# Altium integrated library Actel ProASIC3.IntLib: 465 symbols (part 67 of 68)
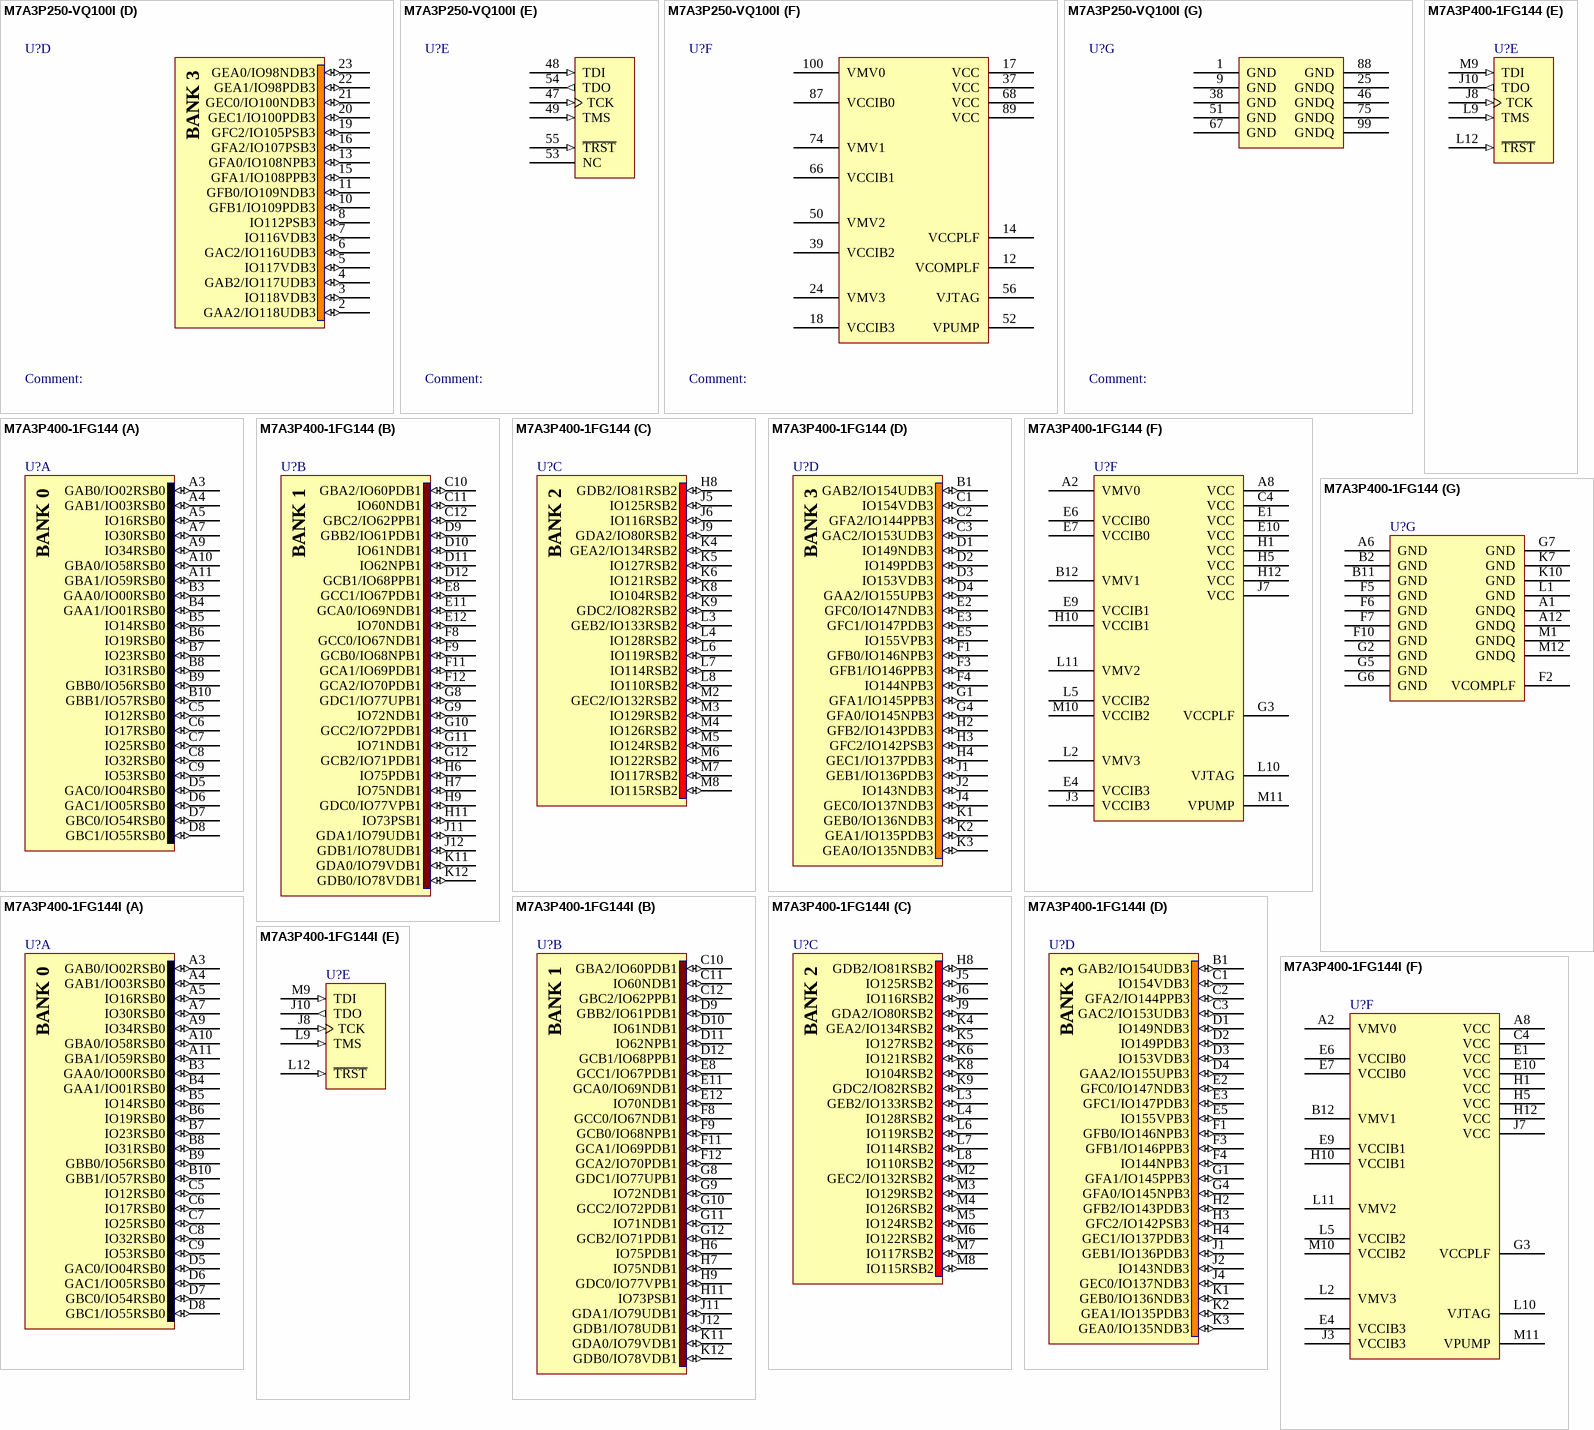
[diagram p357: symbols M7A3P250-VQ100I to M7A3P400-1FG144I]

## M7A3P250-VQ100I
designator U?
M7-Ready ProASIC3 Flash Family FPGA, 68 User IOs, 250K System Gates, 36 Kbits RAM, 1 Kbit Flash ROM, 1 PLL, 100-Pin VQFP, Industrial Grade; DatasheetVersion: v1.1, Feb-2009; PackageVersion: rev40, Jun-2011; PackageReference: VQ100; PackageDescription: 100-Pin Plastic Quad Flat Pack (VQ100); Code_JEDEC: MS-026-AED; ComponentLink1Description: Manufacturer URL; ComponentLink1URL: http://www.actel.com/; ComponentLink2Description: ProASIC3 Datasheet; ComponentLink2URL: http://www.actel.com/documents/PA3_DS.pdf; ComponentLink3Description: Package Mechanical Drawings; ComponentLink3URL: http://www.actel.com/documents/PckgMechDrwngs.pdf; ComponentLink4Description: ProASIC3 Documents; ComponentLink4URL: http://www.actel.com/products/pa3/docs.aspx
footprint VQ100_N (Thin QFP, 100-Leads, Body 14x14mm, Pitch 0.5mm, IPC Medium Density)
footprint VQ100_L (Thin QFP, 100-Leads, Body 14x14mm, Pitch 0.5mm, IPC High Density)
footprint VQ100_M (Thin QFP, 100-Leads, Body 14x14mm, Pitch 0.5mm, IPC Low Density)
part A pins: 76 GBA1/IO40RSB0 (io), 77 GBA0/IO39RSB0 (io), 78 GBB1/IO38RSB0 (io), 79 GBB0/IO37RSB0 (io), 80 GBC1/IO36RSB0 (io), 81 GBC0/IO35RSB0 (io), 82 IO29RSB0 (io), 83 IO27RSB0 (io), 84 IO25RSB0 (io), 85 IO23RSB0 (io), 86 IO21RSB0 (io), 90 IO15RSB0 (io), 91 IO13RSB0 (io), 92 IO11RSB0 (io), 93 GAC1/IO05RSB0 (io), 94 GAC0/IO04RSB0 (io), 95 GAB1/IO03RSB0 (io), 96 GAB0/IO02RSB0 (io), 97 GAA1/IO01RSB0 (io), 98 GAA0/IO00RSB0 (io)
part B pins: 57 GDA1/IO60USB1 (io), 58 GDC0/IO58VDB1 (io), 59 GDC1/IO58UDB1 (io), 60 IO52NDB1 (io), 61 GCB2/IO52PDB1 (io), 62 GCA1/IO50PDB1 (io), 63 GCA0/IO50NDB1 (io), 64 GCC0/IO48NDB1 (io), 65 GCC1/IO48PDB1 (io), 69 IO43NDB1 (io), 70 GBC2/IO43PDB1 (io), 71 GBB2/IO42PSB1 (io), 72 IO41NDB1 (io), 73 GBA2/IO41PDB1 (io)
part C pins: 26 GEA2/IO97RSB2 (io), 27 GEB2/IO96RSB2 (io), 28 GEC2/IO95RSB2 (io), 29 IO93RSB2 (io), 30 IO92RSB2 (io), 31 IO91RSB2 (io), 32 IO90RSB2 (io), 33 IO88RSB2 (io), 34 IO86RSB2 (io), 35 IO85RSB2 (io), 36 IO84RSB2 (io), 40 IO77RSB2 (io), 41 IO74RSB2 (io), 42 IO71RSB2 (io), 43 GDC2/IO63RSB2 (io), 44 GDB2/IO62RSB2 (io), 45 GDA2/IO61RSB2 (io)
part D pins: 2 GAA2/IO118UDB3 (io), 3 IO118VDB3 (io), 4 GAB2/IO117UDB3 (io), 5 IO117VDB3 (io), 6 GAC2/IO116UDB3 (io), 7 IO116VDB3 (io), 8 IO112PSB3 (io), 10 GFB1/IO109PDB3 (io), 11 GFB0/IO109NDB3 (io), 13 GFA0/IO108NPB3 (io), 15 GFA1/IO108PPB3 (io), 16 GFA2/IO107PSB3 (io), 19 GFC2/IO105PSB3 (io), 20 GEC1/IO100PDB3 (io), 21 GEC0/IO100NDB3 (io), 22 GEA1/IO98PDB3 (io), 23 GEA0/IO98NDB3 (io)
part E pins: 47 TCK (in), 48 TDI (in), 49 TMS (in), 53 NC, 54 TDO (out), 55 ~{TRST} (in)
part F pins: 12 VCOMPLF (power), 14 VCCPLF (power), 17 VCC (power), 18 VCCIB3 (power), 24 VMV3 (power), 37 VCC (power), 39 VCCIB2 (power), 50 VMV2 (power), 52 VPUMP (power), 56 VJTAG (power), 66 VCCIB1 (power), 68 VCC (power), 74 VMV1 (power), 87 VCCIB0 (power), 89 VCC (power), 100 VMV0 (power)
part G pins: 1 GND (power), 9 GND (power), 25 GNDQ (power), 38 GND (power), 46 GNDQ (power), 51 GND (power), 67 GND (power), 75 GNDQ (power), 88 GND (power), 99 GNDQ (power)
part A text: BANK 0
part B text: BANK 1
part C text: BANK 2
part D text: BANK 3

## M7A3P400-1FG144
designator U?
M7-Ready ProASIC3 Flash Family FPGA, 97 User IOs, 400K System Gates, 54 Kbits RAM, 1 Kbit Flash ROM, 1 PLL, 144-Ball FBGA, Commercial Grade; DatasheetVersion: v1.1, Feb-2009; PackageVersion: rev39, Aug-2010; PackageReference: FG144; PackageDescription: 144-Ball Fine Pitch Plastic Ball Grid Array (FG144); Code_JEDEC: MO-192-DAD-1; ComponentLink1Description: Manufacturer URL; ComponentLink1URL: http://www.actel.com/; ComponentLink2Description: ProASIC3 Datasheet; ComponentLink2URL: http://www.actel.com/documents/PA3_DS.pdf; ComponentLink3Description: Package Mechanical Drawings; ComponentLink3URL: http://www.actel.com/documents/PckgMechDrwngs.pdf; ComponentLink4Description: ProASIC3 Documents; ComponentLink4URL: http://www.actel.com/products/pa3/docs.aspx
footprint FG144 (BGA, 144-Leads, Body 13x13mm, Pitch 1mm)
part A pins: A3 GAB0/IO02RSB0 (io), A4 GAB1/IO03RSB0 (io), A5 IO16RSB0 (io), A7 IO30RSB0 (io), A9 IO34RSB0 (io), A10 GBA0/IO58RSB0 (io), A11 GBA1/IO59RSB0 (io), B3 GAA0/IO00RSB0 (io), B4 GAA1/IO01RSB0 (io), B5 IO14RSB0 (io), B6 IO19RSB0 (io), B7 IO23RSB0 (io), B8 IO31RSB0 (io), B9 GBB0/IO56RSB0 (io), B10 GBB1/IO57RSB0 (io), C5 IO12RSB0 (io), C6 IO17RSB0 (io), C7 IO25RSB0 (io), C8 IO32RSB0 (io), C9 IO53RSB0 (io), D5 GAC0/IO04RSB0 (io), D6 GAC1/IO05RSB0 (io), D7 GBC0/IO54RSB0 (io), D8 GBC1/IO55RSB0 (io)
part B pins: C10 GBA2/IO60PDB1 (io), C11 IO60NDB1 (io), C12 GBC2/IO62PPB1 (io), D9 GBB2/IO61PDB1 (io), D10 IO61NDB1 (io), D11 IO62NPB1 (io), D12 GCB1/IO68PPB1 (io), E8 GCC1/IO67PDB1 (io), E11 GCA0/IO69NDB1 (io), E12 IO70NDB1 (io), F8 GCC0/IO67NDB1 (io), F9 GCB0/IO68NPB1 (io), F11 GCA1/IO69PDB1 (io), F12 GCA2/IO70PDB1 (io), G8 GDC1/IO77UPB1 (io), G9 IO72NDB1 (io), G10 GCC2/IO72PDB1 (io), G11 IO71NDB1 (io), G12 GCB2/IO71PDB1 (io), H6 IO75PDB1 (io), H7 IO75NDB1 (io), H9 GDC0/IO77VPB1 (io), H11 IO73PSB1 (io), J11 GDA1/IO79UDB1 (io), J12 GDB1/IO78UDB1 (io), K11 GDA0/IO79VDB1 (io), K12 GDB0/IO78VDB1 (io)
part C pins: H8 GDB2/IO81RSB2 (io), J5 IO125RSB2 (io), J6 IO116RSB2 (io), J9 GDA2/IO80RSB2 (io), K4 GEA2/IO134RSB2 (io), K5 IO127RSB2 (io), K6 IO121RSB2 (io), K8 IO104RSB2 (io), K9 GDC2/IO82RSB2 (io), L3 GEB2/IO133RSB2 (io), L4 IO128RSB2 (io), L6 IO119RSB2 (io), L7 IO114RSB2 (io), L8 IO110RSB2 (io), M2 GEC2/IO132RSB2 (io), M3 IO129RSB2 (io), M4 IO126RSB2 (io), M5 IO124RSB2 (io), M6 IO122RSB2 (io), M7 IO117RSB2 (io), M8 IO115RSB2 (io)
part D pins: B1 GAB2/IO154UDB3 (io), C1 IO154VDB3 (io), C2 GFA2/IO144PPB3 (io), C3 GAC2/IO153UDB3 (io), D1 IO149NDB3 (io), D2 IO149PDB3 (io), D3 IO153VDB3 (io), D4 GAA2/IO155UPB3 (io), E2 GFC0/IO147NDB3 (io), E3 GFC1/IO147PDB3 (io), E5 IO155VPB3 (io), F1 GFB0/IO146NPB3 (io), F3 GFB1/IO146PPB3 (io), F4 IO144NPB3 (io), G1 GFA1/IO145PPB3 (io), G4 GFA0/IO145NPB3 (io), H2 GFB2/IO143PDB3 (io), H3 GFC2/IO142PSB3 (io), H4 GEC1/IO137PDB3 (io), J1 GEB1/IO136PDB3 (io), J2 IO143NDB3 (io), J4 GEC0/IO137NDB3 (io), K1 GEB0/IO136NDB3 (io), K2 GEA1/IO135PDB3 (io), K3 GEA0/IO135NDB3 (io)
part E pins: J8 TCK (in), J10 TDO (out), L9 TMS (in), L12 ~{TRST} (in), M9 TDI (in)
part F pins: A2 VMV0 (power), A8 VCC (power), B12 VMV1 (power), C4 VCC (power), E1 VCC (power), E4 VCCIB3 (power), E6 VCCIB0 (power), E7 VCCIB0 (power), E9 VCCIB1 (power), E10 VCC (power), G3 VCCPLF (power), H1 VCC (power), H5 VCC (power), H10 VCCIB1 (power), H12 VCC (power), J3 VCCIB3 (power), J7 VCC (power), L2 VMV3 (power), L5 VCCIB2 (power), L10 VJTAG (power), L11 VMV2 (power), M10 VCCIB2 (power), M11 VPUMP (power)
part G pins: A1 GNDQ (power), A6 GND (power), A12 GNDQ (power), B2 GND (power), B11 GND (power), F2 VCOMPLF (power), F5 GND (power), F6 GND (power), F7 GND (power), F10 GND (power), G2 GND (power), G5 GND (power), G6 GND (power), G7 GND (power), K7 GND (power), K10 GND (power), L1 GND (power), M1 GNDQ (power), M12 GNDQ (power)
part A text: BANK 0
part B text: BANK 1
part C text: BANK 2
part D text: BANK 3

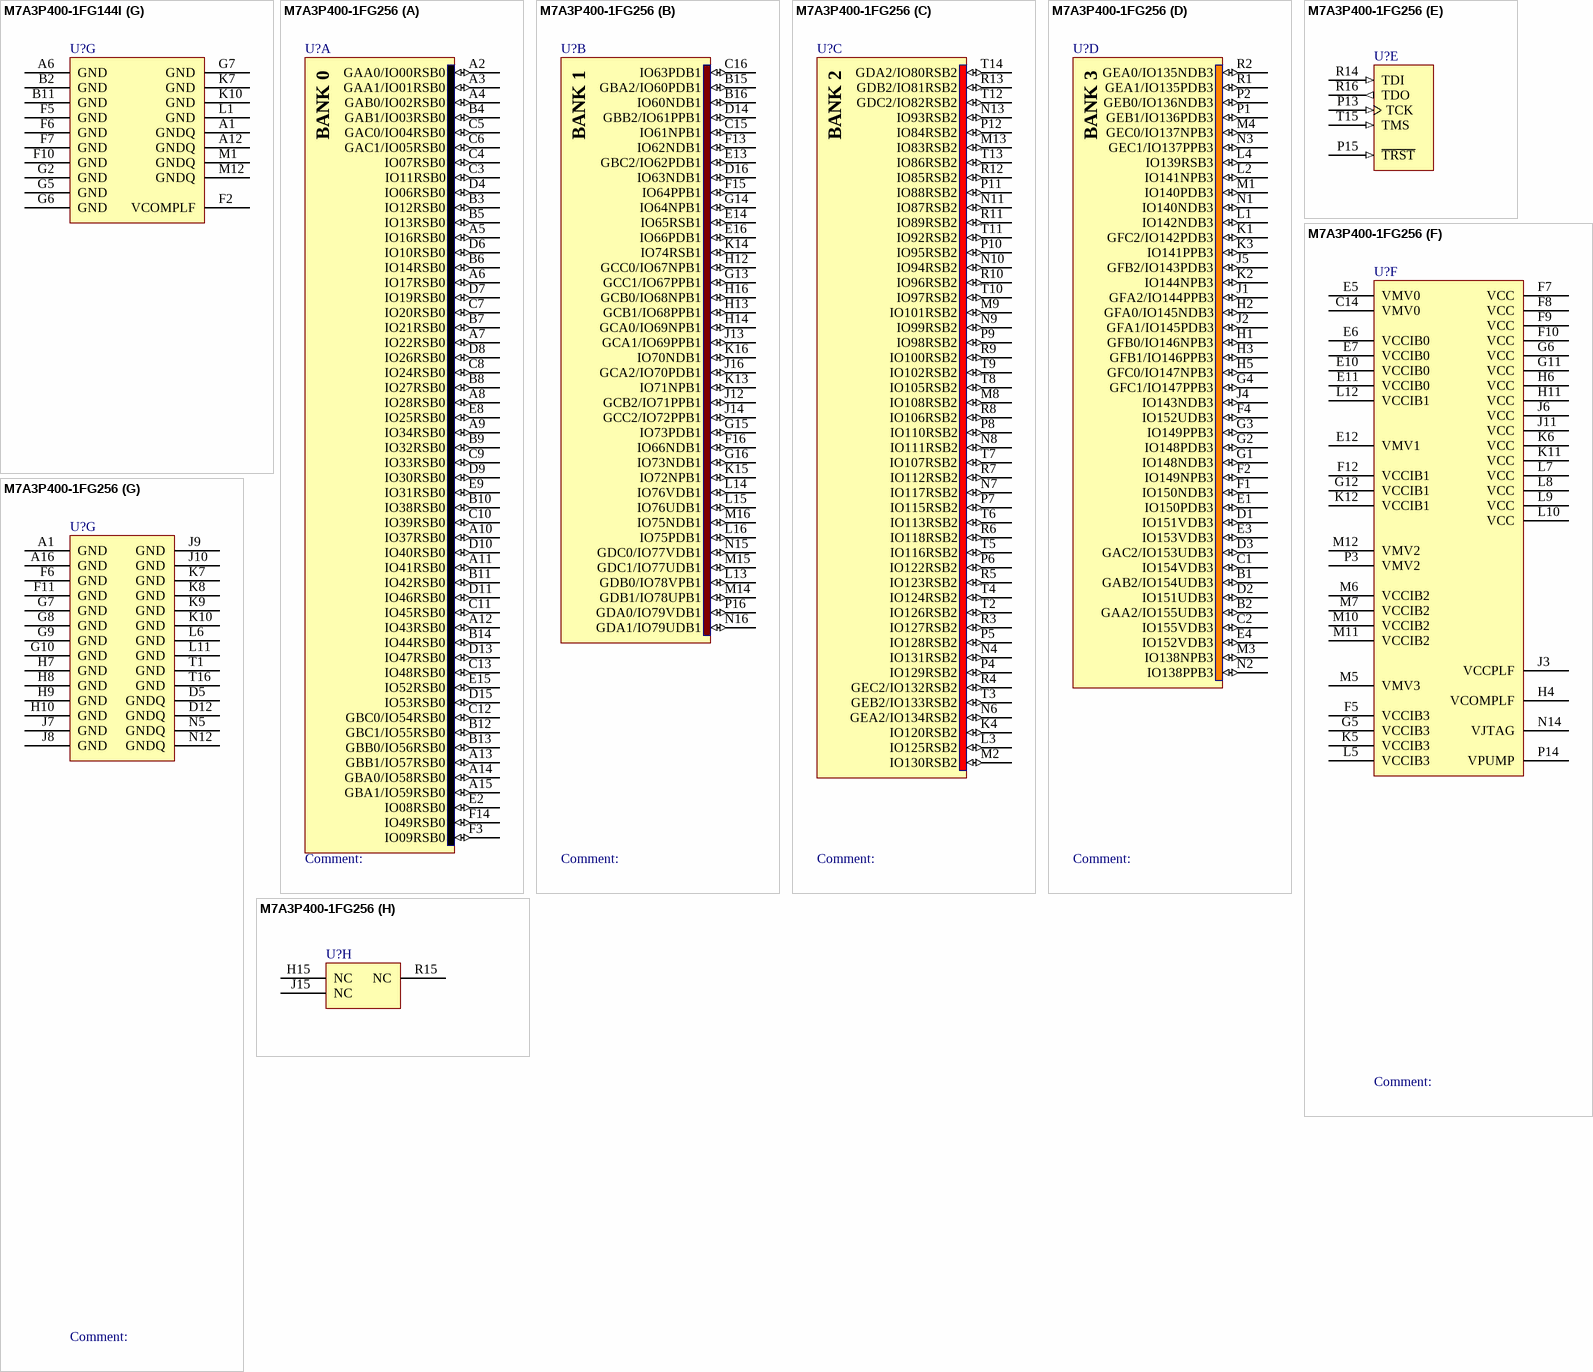
[diagram p255: symbols M7A3P400-1FG144I to M7A3P400-1FG256]

## M7A3P400-1FG144I
designator U?
M7-Ready ProASIC3 Flash Family FPGA, 97 User IOs, 400K System Gates, 54 Kbits RAM, 1 Kbit Flash ROM, 1 PLL, 144-Ball FBGA, Industrial Grade; DatasheetVersion: v1.1, Feb-2009; PackageVersion: rev39, Aug-2010; PackageReference: FG144; PackageDescription: 144-Ball Fine Pitch Plastic Ball Grid Array (FG144); Code_JEDEC: MO-192-DAD-1; ComponentLink1Description: Manufacturer URL; ComponentLink1URL: http://www.actel.com/; ComponentLink2Description: ProASIC3 Datasheet; ComponentLink2URL: http://www.actel.com/documents/PA3_DS.pdf; ComponentLink3Description: Package Mechanical Drawings; ComponentLink3URL: http://www.actel.com/documents/PckgMechDrwngs.pdf; ComponentLink4Description: ProASIC3 Documents; ComponentLink4URL: http://www.actel.com/products/pa3/docs.aspx
footprint FG144 (BGA, 144-Leads, Body 13x13mm, Pitch 1mm)
part A pins: A3 GAB0/IO02RSB0 (io), A4 GAB1/IO03RSB0 (io), A5 IO16RSB0 (io), A7 IO30RSB0 (io), A9 IO34RSB0 (io), A10 GBA0/IO58RSB0 (io), A11 GBA1/IO59RSB0 (io), B3 GAA0/IO00RSB0 (io), B4 GAA1/IO01RSB0 (io), B5 IO14RSB0 (io), B6 IO19RSB0 (io), B7 IO23RSB0 (io), B8 IO31RSB0 (io), B9 GBB0/IO56RSB0 (io), B10 GBB1/IO57RSB0 (io), C5 IO12RSB0 (io), C6 IO17RSB0 (io), C7 IO25RSB0 (io), C8 IO32RSB0 (io), C9 IO53RSB0 (io), D5 GAC0/IO04RSB0 (io), D6 GAC1/IO05RSB0 (io), D7 GBC0/IO54RSB0 (io), D8 GBC1/IO55RSB0 (io)
part B pins: C10 GBA2/IO60PDB1 (io), C11 IO60NDB1 (io), C12 GBC2/IO62PPB1 (io), D9 GBB2/IO61PDB1 (io), D10 IO61NDB1 (io), D11 IO62NPB1 (io), D12 GCB1/IO68PPB1 (io), E8 GCC1/IO67PDB1 (io), E11 GCA0/IO69NDB1 (io), E12 IO70NDB1 (io), F8 GCC0/IO67NDB1 (io), F9 GCB0/IO68NPB1 (io), F11 GCA1/IO69PDB1 (io), F12 GCA2/IO70PDB1 (io), G8 GDC1/IO77UPB1 (io), G9 IO72NDB1 (io), G10 GCC2/IO72PDB1 (io), G11 IO71NDB1 (io), G12 GCB2/IO71PDB1 (io), H6 IO75PDB1 (io), H7 IO75NDB1 (io), H9 GDC0/IO77VPB1 (io), H11 IO73PSB1 (io), J11 GDA1/IO79UDB1 (io), J12 GDB1/IO78UDB1 (io), K11 GDA0/IO79VDB1 (io), K12 GDB0/IO78VDB1 (io)
part C pins: H8 GDB2/IO81RSB2 (io), J5 IO125RSB2 (io), J6 IO116RSB2 (io), J9 GDA2/IO80RSB2 (io), K4 GEA2/IO134RSB2 (io), K5 IO127RSB2 (io), K6 IO121RSB2 (io), K8 IO104RSB2 (io), K9 GDC2/IO82RSB2 (io), L3 GEB2/IO133RSB2 (io), L4 IO128RSB2 (io), L6 IO119RSB2 (io), L7 IO114RSB2 (io), L8 IO110RSB2 (io), M2 GEC2/IO132RSB2 (io), M3 IO129RSB2 (io), M4 IO126RSB2 (io), M5 IO124RSB2 (io), M6 IO122RSB2 (io), M7 IO117RSB2 (io), M8 IO115RSB2 (io)
part D pins: B1 GAB2/IO154UDB3 (io), C1 IO154VDB3 (io), C2 GFA2/IO144PPB3 (io), C3 GAC2/IO153UDB3 (io), D1 IO149NDB3 (io), D2 IO149PDB3 (io), D3 IO153VDB3 (io), D4 GAA2/IO155UPB3 (io), E2 GFC0/IO147NDB3 (io), E3 GFC1/IO147PDB3 (io), E5 IO155VPB3 (io), F1 GFB0/IO146NPB3 (io), F3 GFB1/IO146PPB3 (io), F4 IO144NPB3 (io), G1 GFA1/IO145PPB3 (io), G4 GFA0/IO145NPB3 (io), H2 GFB2/IO143PDB3 (io), H3 GFC2/IO142PSB3 (io), H4 GEC1/IO137PDB3 (io), J1 GEB1/IO136PDB3 (io), J2 IO143NDB3 (io), J4 GEC0/IO137NDB3 (io), K1 GEB0/IO136NDB3 (io), K2 GEA1/IO135PDB3 (io), K3 GEA0/IO135NDB3 (io)
part E pins: J8 TCK (in), J10 TDO (out), L9 TMS (in), L12 ~{TRST} (in), M9 TDI (in)
part F pins: A2 VMV0 (power), A8 VCC (power), B12 VMV1 (power), C4 VCC (power), E1 VCC (power), E4 VCCIB3 (power), E6 VCCIB0 (power), E7 VCCIB0 (power), E9 VCCIB1 (power), E10 VCC (power), G3 VCCPLF (power), H1 VCC (power), H5 VCC (power), H10 VCCIB1 (power), H12 VCC (power), J3 VCCIB3 (power), J7 VCC (power), L2 VMV3 (power), L5 VCCIB2 (power), L10 VJTAG (power), L11 VMV2 (power), M10 VCCIB2 (power), M11 VPUMP (power)
part G pins: A1 GNDQ (power), A6 GND (power), A12 GNDQ (power), B2 GND (power), B11 GND (power), F2 VCOMPLF (power), F5 GND (power), F6 GND (power), F7 GND (power), F10 GND (power), G2 GND (power), G5 GND (power), G6 GND (power), G7 GND (power), K7 GND (power), K10 GND (power), L1 GND (power), M1 GNDQ (power), M12 GNDQ (power)
part A text: BANK 0
part B text: BANK 1
part C text: BANK 2
part D text: BANK 3

## M7A3P400-1FG256
designator U?
M7-Ready ProASIC3 Flash Family FPGA, 178 User IOs, 400K System Gates, 54 Kbits RAM, 1 Kbit Flash ROM, 1 PLL, 256-Ball FBGA, Commercial Grade; DatasheetVersion: v1.1, Feb-2009; PackageVersion: rev39, Aug-2010; PackageReference: FG256; PackageDescription: 256-Ball Fine Pitch Plastic Ball Grid Array 1.00 mm Pitch (FG256); Code_JEDEC: MO-192-DAF-1; ComponentLink1Description: Manufacturer URL; ComponentLink1URL: http://www.actel.com/; ComponentLink2Description: ProASIC3 Datasheet; ComponentLink2URL: http://www.actel.com/documents/PA3_DS.pdf; ComponentLink3Description: Package Mechanical Drawings; ComponentLink3URL: http://www.actel.com/documents/PckgMechDrwngs.pdf; ComponentLink4Description: ProASIC3 Documents; ComponentLink4URL: http://www.actel.com/products/pa3/docs.aspx
footprint FG256 (BGA, 256-Leads, Body 17x17mm, Pitch 1mm)
part A pins: A2 GAA0/IO00RSB0 (io), A3 GAA1/IO01RSB0 (io), A4 GAB0/IO02RSB0 (io), A5 IO16RSB0 (io), A6 IO17RSB0 (io), A7 IO22RSB0 (io), A8 IO28RSB0 (io), A9 IO34RSB0 (io), A10 IO37RSB0 (io), A11 IO41RSB0 (io), A12 IO43RSB0 (io), A13 GBB1/IO57RSB0 (io), A14 GBA0/IO58RSB0 (io), A15 GBA1/IO59RSB0 (io), B3 IO12RSB0 (io), B4 GAB1/IO03RSB0 (io), B5 IO13RSB0 (io), B6 IO14RSB0 (io), B7 IO21RSB0 (io), B8 IO27RSB0 (io), B9 IO32RSB0 (io), B10 IO38RSB0 (io), B11 IO42RSB0 (io), B12 GBC1/IO55RSB0 (io), B13 GBB0/IO56RSB0 (io), B14 IO44RSB0 (io), C3 IO11RSB0 (io), C4 IO07RSB0 (io), C5 GAC0/IO04RSB0 (io), C6 GAC1/IO05RSB0 (io), C7 IO20RSB0 (io), C8 IO24RSB0 (io), C9 IO33RSB0 (io), C10 IO39RSB0 (io), C11 IO45RSB0 (io), C12 GBC0/IO54RSB0 (io), C13 IO48RSB0 (io), D4 IO06RSB0 (io), D6 IO10RSB0 (io), D7 IO19RSB0 (io), D8 IO26RSB0 (io), D9 IO30RSB0 (io), D10 IO40RSB0 (io), D11 IO46RSB0 (io), D13 IO47RSB0 (io), D15 IO53RSB0 (io), E2 IO08RSB0 (io), E8 IO25RSB0 (io), E9 IO31RSB0 (io), E15 IO52RSB0 (io), F3 IO09RSB0 (io), F14 IO49RSB0 (io)
part B pins: B15 GBA2/IO60PDB1 (io), B16 IO60NDB1 (io), C15 IO61NPB1 (io), C16 IO63PDB1 (io), D14 GBB2/IO61PPB1 (io), D16 IO63NDB1 (io), E13 GBC2/IO62PDB1 (io), E14 IO65RSB1 (io), E16 IO66PDB1 (io), F13 IO62NDB1 (io), F15 IO64PPB1 (io), F16 IO66NDB1 (io), G13 GCC1/IO67PPB1 (io), G14 IO64NPB1 (io), G15 IO73PDB1 (io), G16 IO73NDB1 (io), H12 GCC0/IO67NPB1 (io), H13 GCB1/IO68PPB1 (io), H14 GCA0/IO69NPB1 (io), H16 GCB0/IO68NPB1 (io), J12 GCB2/IO71PPB1 (io), J13 GCA1/IO69PPB1 (io), J14 GCC2/IO72PPB1 (io), J16 GCA2/IO70PDB1 (io), K13 IO71NPB1 (io), K14 IO74RSB1 (io), K15 IO72NPB1 (io), K16 IO70NDB1 (io), L13 GDB0/IO78VPB1 (io), L14 IO76VDB1 (io), L15 IO76UDB1 (io), L16 IO75PDB1 (io), M14 GDB1/IO78UPB1 (io), M15 GDC1/IO77UDB1 (io), M16 IO75NDB1 (io), N15 GDC0/IO77VDB1 (io), N16 GDA1/IO79UDB1 (io), P16 GDA0/IO79VDB1 (io)
part C pins: K4 IO120RSB2 (io), L3 IO125RSB2 (io), M2 IO130RSB2 (io), M8 IO108RSB2 (io), M9 IO101RSB2 (io), M13 IO83RSB2 (io), N4 IO131RSB2 (io), N6 GEA2/IO134RSB2 (io), N7 IO117RSB2 (io), N8 IO111RSB2 (io), N9 IO99RSB2 (io), N10 IO94RSB2 (io), N11 IO87RSB2 (io), N13 IO93RSB2 (io), P4 IO129RSB2 (io), P5 IO128RSB2 (io), P6 IO122RSB2 (io), P7 IO115RSB2 (io), P8 IO110RSB2 (io), P9 IO98RSB2 (io), P10 IO95RSB2 (io), P11 IO88RSB2 (io), P12 IO84RSB2 (io), R3 IO127RSB2 (io), R4 GEC2/IO132RSB2 (io), R5 IO123RSB2 (io), R6 IO118RSB2 (io), R7 IO112RSB2 (io), R8 IO106RSB2 (io), R9 IO100RSB2 (io), R10 IO96RSB2 (io), R11 IO89RSB2 (io), R12 IO85RSB2 (io), R13 GDB2/IO81RSB2 (io), T2 IO126RSB2 (io), T3 GEB2/IO133RSB2 (io), T4 IO124RSB2 (io), T5 IO116RSB2 (io), T6 IO113RSB2 (io), T7 IO107RSB2 (io), T8 IO105RSB2 (io), T9 IO102RSB2 (io), T10 IO97RSB2 (io), T11 IO92RSB2 (io), T12 GDC2/IO82RSB2 (io), T13 IO86RSB2 (io), T14 GDA2/IO80RSB2 (io)
part D pins: B1 GAB2/IO154UDB3 (io), B2 GAA2/IO155UDB3 (io), C1 IO154VDB3 (io), C2 IO155VDB3 (io), D1 IO151VDB3 (io), D2 IO151UDB3 (io), D3 GAC2/IO153UDB3 (io), E1 IO150PDB3 (io), E3 IO153VDB3 (io), E4 IO152VDB3 (io), F1 IO150NDB3 (io), F2 IO149NPB3 (io), F4 IO152UDB3 (io), G1 IO148NDB3 (io), G2 IO148PDB3 (io), G3 IO149PPB3 (io), G4 GFC1/IO147PPB3 (io), H1 GFB0/IO146NPB3 (io), H2 GFA0/IO145NDB3 (io), H3 GFB1/IO146PPB3 (io), H5 GFC0/IO147NPB3 (io), J1 GFA2/IO144PPB3 (io), J2 GFA1/IO145PDB3 (io), J4 IO143NDB3 (io), J5 GFB2/IO143PDB3 (io), K1 GFC2/IO142PDB3 (io), K2 IO144NPB3 (io), K3 IO141PPB3 (io), L1 IO142NDB3 (io), L2 IO141NPB3 (io), L4 IO139RSB3 (io), M1 IO140PDB3 (io), M3 IO138NPB3 (io), M4 GEC0/IO137NPB3 (io), N1 IO140NDB3 (io), N2 IO138PPB3 (io), N3 GEC1/IO137PPB3 (io), P1 GEB1/IO136PDB3 (io), P2 GEB0/IO136NDB3 (io), R1 GEA1/IO135PDB3 (io), R2 GEA0/IO135NDB3 (io)
part E pins: P13 TCK (in), P15 ~{TRST} (in), R14 TDI (in), R16 TDO (out), T15 TMS (in)
part F pins: C14 VMV0 (power), E5 VMV0 (power), E6 VCCIB0 (power), E7 VCCIB0 (power), E10 VCCIB0 (power), E11 VCCIB0 (power), E12 VMV1 (power), F5 VCCIB3 (power), F7 VCC (power), F8 VCC (power), F9 VCC (power), F10 VCC (power), F12 VCCIB1 (power), G5 VCCIB3 (power), G6 VCC (power), G11 VCC (power), G12 VCCIB1 (power), H4 VCOMPLF (power), H6 VCC (power), H11 VCC (power), J3 VCCPLF (power), J6 VCC (power), J11 VCC (power), K5 VCCIB3 (power), K6 VCC (power), K11 VCC (power), K12 VCCIB1 (power), L5 VCCIB3 (power), L7 VCC (power), L8 VCC (power), L9 VCC (power), L10 VCC (power), L12 VCCIB1 (power), M5 VMV3 (power), M6 VCCIB2 (power), M7 VCCIB2 (power), M10 VCCIB2 (power), M11 VCCIB2 (power), M12 VMV2 (power), N14 VJTAG (power), P3 VMV2 (power), P14 VPUMP (power)
part G pins: A1 GND (power), A16 GND (power), D5 GNDQ (power), D12 GNDQ (power), F6 GND (power), F11 GND (power), G7 GND (power), G8 GND (power), G9 GND (power), G10 GND (power), H7 GND (power), H8 GND (power), H9 GND (power), H10 GND (power), J7 GND (power), J8 GND (power), J9 GND (power), J10 GND (power), K7 GND (power), K8 GND (power), K9 GND (power), K10 GND (power), L6 GND (power), L11 GND (power), N5 GNDQ (power), N12 GNDQ (power), T1 GND (power), T16 GND (power)
part H pins: H15 NC, J15 NC, R15 NC
part A text: BANK 0
part B text: BANK 1
part C text: BANK 2
part D text: BANK 3

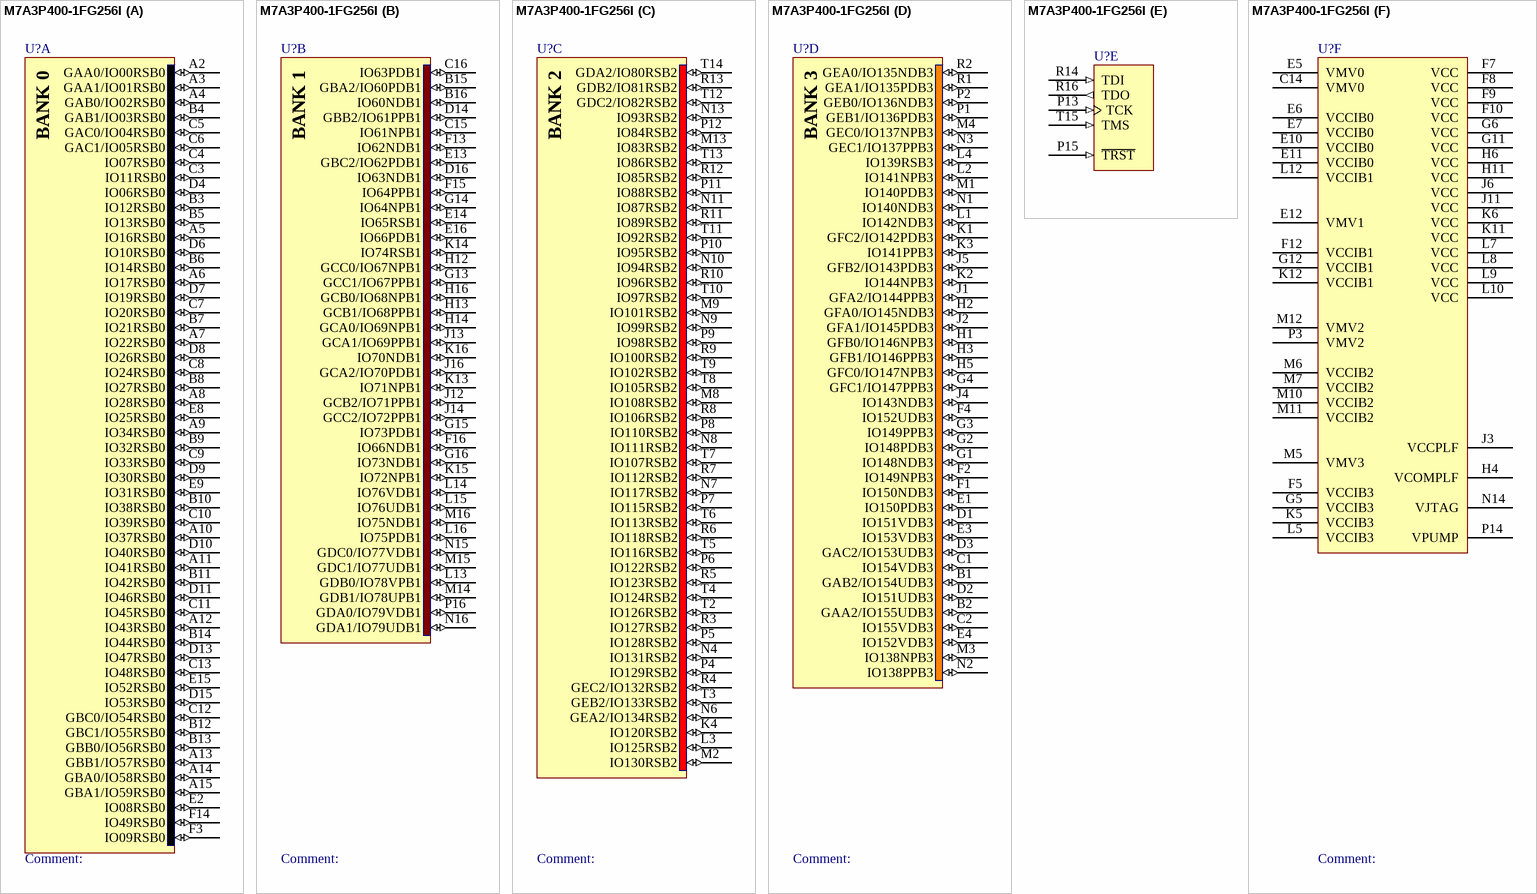
[diagram p256: symbol M7A3P400-1FG256I]

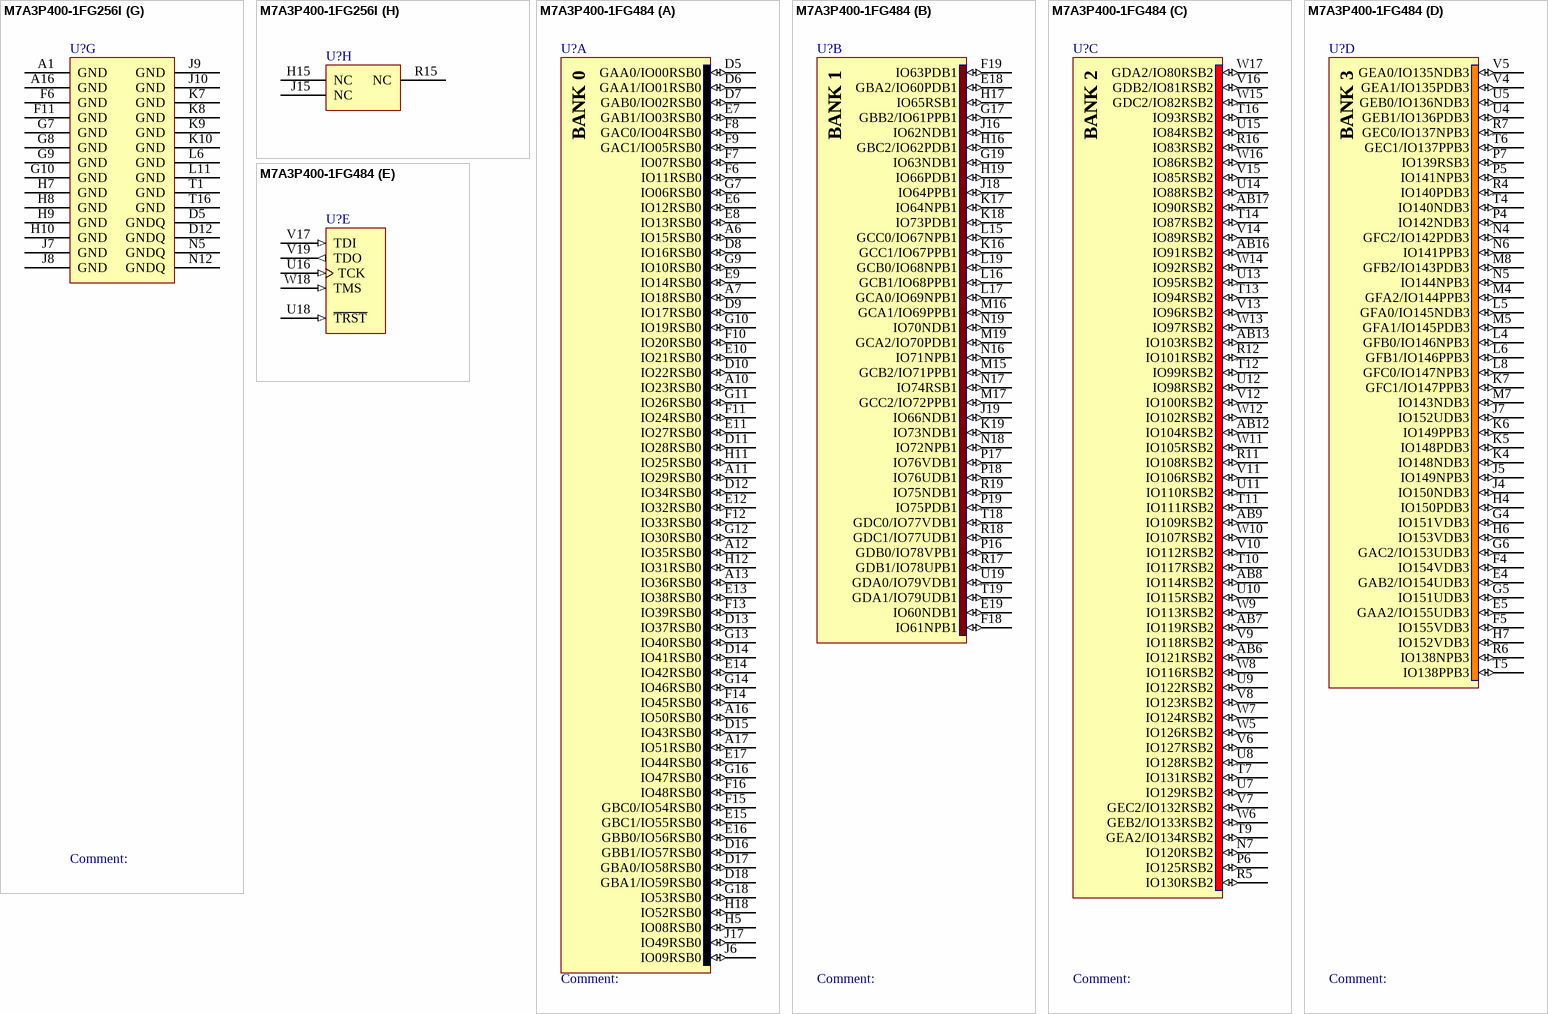
[diagram p257: symbols M7A3P400-1FG256I to M7A3P400-1FG484]

## M7A3P400-1FG256I
designator U?
M7-Ready ProASIC3 Flash Family FPGA, 178 User IOs, 400K System Gates, 54 Kbits RAM, 1 Kbit Flash ROM, 1 PLL, 256-Ball FBGA, Industrial Grade; DatasheetVersion: v1.1, Feb-2009; PackageVersion: rev39, Aug-2010; PackageReference: FG256; PackageDescription: 256-Ball Fine Pitch Plastic Ball Grid Array 1.00 mm Pitch (FG256); Code_JEDEC: MO-192-DAF-1; ComponentLink1Description: Manufacturer URL; ComponentLink1URL: http://www.actel.com/; ComponentLink2Description: ProASIC3 Datasheet; ComponentLink2URL: http://www.actel.com/documents/PA3_DS.pdf; ComponentLink3Description: Package Mechanical Drawings; ComponentLink3URL: http://www.actel.com/documents/PckgMechDrwngs.pdf; ComponentLink4Description: ProASIC3 Documents; ComponentLink4URL: http://www.actel.com/products/pa3/docs.aspx
footprint FG256 (BGA, 256-Leads, Body 17x17mm, Pitch 1mm)
part A pins: A2 GAA0/IO00RSB0 (io), A3 GAA1/IO01RSB0 (io), A4 GAB0/IO02RSB0 (io), A5 IO16RSB0 (io), A6 IO17RSB0 (io), A7 IO22RSB0 (io), A8 IO28RSB0 (io), A9 IO34RSB0 (io), A10 IO37RSB0 (io), A11 IO41RSB0 (io), A12 IO43RSB0 (io), A13 GBB1/IO57RSB0 (io), A14 GBA0/IO58RSB0 (io), A15 GBA1/IO59RSB0 (io), B3 IO12RSB0 (io), B4 GAB1/IO03RSB0 (io), B5 IO13RSB0 (io), B6 IO14RSB0 (io), B7 IO21RSB0 (io), B8 IO27RSB0 (io), B9 IO32RSB0 (io), B10 IO38RSB0 (io), B11 IO42RSB0 (io), B12 GBC1/IO55RSB0 (io), B13 GBB0/IO56RSB0 (io), B14 IO44RSB0 (io), C3 IO11RSB0 (io), C4 IO07RSB0 (io), C5 GAC0/IO04RSB0 (io), C6 GAC1/IO05RSB0 (io), C7 IO20RSB0 (io), C8 IO24RSB0 (io), C9 IO33RSB0 (io), C10 IO39RSB0 (io), C11 IO45RSB0 (io), C12 GBC0/IO54RSB0 (io), C13 IO48RSB0 (io), D4 IO06RSB0 (io), D6 IO10RSB0 (io), D7 IO19RSB0 (io), D8 IO26RSB0 (io), D9 IO30RSB0 (io), D10 IO40RSB0 (io), D11 IO46RSB0 (io), D13 IO47RSB0 (io), D15 IO53RSB0 (io), E2 IO08RSB0 (io), E8 IO25RSB0 (io), E9 IO31RSB0 (io), E15 IO52RSB0 (io), F3 IO09RSB0 (io), F14 IO49RSB0 (io)
part B pins: B15 GBA2/IO60PDB1 (io), B16 IO60NDB1 (io), C15 IO61NPB1 (io), C16 IO63PDB1 (io), D14 GBB2/IO61PPB1 (io), D16 IO63NDB1 (io), E13 GBC2/IO62PDB1 (io), E14 IO65RSB1 (io), E16 IO66PDB1 (io), F13 IO62NDB1 (io), F15 IO64PPB1 (io), F16 IO66NDB1 (io), G13 GCC1/IO67PPB1 (io), G14 IO64NPB1 (io), G15 IO73PDB1 (io), G16 IO73NDB1 (io), H12 GCC0/IO67NPB1 (io), H13 GCB1/IO68PPB1 (io), H14 GCA0/IO69NPB1 (io), H16 GCB0/IO68NPB1 (io), J12 GCB2/IO71PPB1 (io), J13 GCA1/IO69PPB1 (io), J14 GCC2/IO72PPB1 (io), J16 GCA2/IO70PDB1 (io), K13 IO71NPB1 (io), K14 IO74RSB1 (io), K15 IO72NPB1 (io), K16 IO70NDB1 (io), L13 GDB0/IO78VPB1 (io), L14 IO76VDB1 (io), L15 IO76UDB1 (io), L16 IO75PDB1 (io), M14 GDB1/IO78UPB1 (io), M15 GDC1/IO77UDB1 (io), M16 IO75NDB1 (io), N15 GDC0/IO77VDB1 (io), N16 GDA1/IO79UDB1 (io), P16 GDA0/IO79VDB1 (io)
part C pins: K4 IO120RSB2 (io), L3 IO125RSB2 (io), M2 IO130RSB2 (io), M8 IO108RSB2 (io), M9 IO101RSB2 (io), M13 IO83RSB2 (io), N4 IO131RSB2 (io), N6 GEA2/IO134RSB2 (io), N7 IO117RSB2 (io), N8 IO111RSB2 (io), N9 IO99RSB2 (io), N10 IO94RSB2 (io), N11 IO87RSB2 (io), N13 IO93RSB2 (io), P4 IO129RSB2 (io), P5 IO128RSB2 (io), P6 IO122RSB2 (io), P7 IO115RSB2 (io), P8 IO110RSB2 (io), P9 IO98RSB2 (io), P10 IO95RSB2 (io), P11 IO88RSB2 (io), P12 IO84RSB2 (io), R3 IO127RSB2 (io), R4 GEC2/IO132RSB2 (io), R5 IO123RSB2 (io), R6 IO118RSB2 (io), R7 IO112RSB2 (io), R8 IO106RSB2 (io), R9 IO100RSB2 (io), R10 IO96RSB2 (io), R11 IO89RSB2 (io), R12 IO85RSB2 (io), R13 GDB2/IO81RSB2 (io), T2 IO126RSB2 (io), T3 GEB2/IO133RSB2 (io), T4 IO124RSB2 (io), T5 IO116RSB2 (io), T6 IO113RSB2 (io), T7 IO107RSB2 (io), T8 IO105RSB2 (io), T9 IO102RSB2 (io), T10 IO97RSB2 (io), T11 IO92RSB2 (io), T12 GDC2/IO82RSB2 (io), T13 IO86RSB2 (io), T14 GDA2/IO80RSB2 (io)
part D pins: B1 GAB2/IO154UDB3 (io), B2 GAA2/IO155UDB3 (io), C1 IO154VDB3 (io), C2 IO155VDB3 (io), D1 IO151VDB3 (io), D2 IO151UDB3 (io), D3 GAC2/IO153UDB3 (io), E1 IO150PDB3 (io), E3 IO153VDB3 (io), E4 IO152VDB3 (io), F1 IO150NDB3 (io), F2 IO149NPB3 (io), F4 IO152UDB3 (io), G1 IO148NDB3 (io), G2 IO148PDB3 (io), G3 IO149PPB3 (io), G4 GFC1/IO147PPB3 (io), H1 GFB0/IO146NPB3 (io), H2 GFA0/IO145NDB3 (io), H3 GFB1/IO146PPB3 (io), H5 GFC0/IO147NPB3 (io), J1 GFA2/IO144PPB3 (io), J2 GFA1/IO145PDB3 (io), J4 IO143NDB3 (io), J5 GFB2/IO143PDB3 (io), K1 GFC2/IO142PDB3 (io), K2 IO144NPB3 (io), K3 IO141PPB3 (io), L1 IO142NDB3 (io), L2 IO141NPB3 (io), L4 IO139RSB3 (io), M1 IO140PDB3 (io), M3 IO138NPB3 (io), M4 GEC0/IO137NPB3 (io), N1 IO140NDB3 (io), N2 IO138PPB3 (io), N3 GEC1/IO137PPB3 (io), P1 GEB1/IO136PDB3 (io), P2 GEB0/IO136NDB3 (io), R1 GEA1/IO135PDB3 (io), R2 GEA0/IO135NDB3 (io)
part E pins: P13 TCK (in), P15 ~{TRST} (in), R14 TDI (in), R16 TDO (out), T15 TMS (in)
part F pins: C14 VMV0 (power), E5 VMV0 (power), E6 VCCIB0 (power), E7 VCCIB0 (power), E10 VCCIB0 (power), E11 VCCIB0 (power), E12 VMV1 (power), F5 VCCIB3 (power), F7 VCC (power), F8 VCC (power), F9 VCC (power), F10 VCC (power), F12 VCCIB1 (power), G5 VCCIB3 (power), G6 VCC (power), G11 VCC (power), G12 VCCIB1 (power), H4 VCOMPLF (power), H6 VCC (power), H11 VCC (power), J3 VCCPLF (power), J6 VCC (power), J11 VCC (power), K5 VCCIB3 (power), K6 VCC (power), K11 VCC (power), K12 VCCIB1 (power), L5 VCCIB3 (power), L7 VCC (power), L8 VCC (power), L9 VCC (power), L10 VCC (power), L12 VCCIB1 (power), M5 VMV3 (power), M6 VCCIB2 (power), M7 VCCIB2 (power), M10 VCCIB2 (power), M11 VCCIB2 (power), M12 VMV2 (power), N14 VJTAG (power), P3 VMV2 (power), P14 VPUMP (power)
part G pins: A1 GND (power), A16 GND (power), D5 GNDQ (power), D12 GNDQ (power), F6 GND (power), F11 GND (power), G7 GND (power), G8 GND (power), G9 GND (power), G10 GND (power), H7 GND (power), H8 GND (power), H9 GND (power), H10 GND (power), J7 GND (power), J8 GND (power), J9 GND (power), J10 GND (power), K7 GND (power), K8 GND (power), K9 GND (power), K10 GND (power), L6 GND (power), L11 GND (power), N5 GNDQ (power), N12 GNDQ (power), T1 GND (power), T16 GND (power)
part H pins: H15 NC, J15 NC, R15 NC
part A text: BANK 0
part B text: BANK 1
part C text: BANK 2
part D text: BANK 3

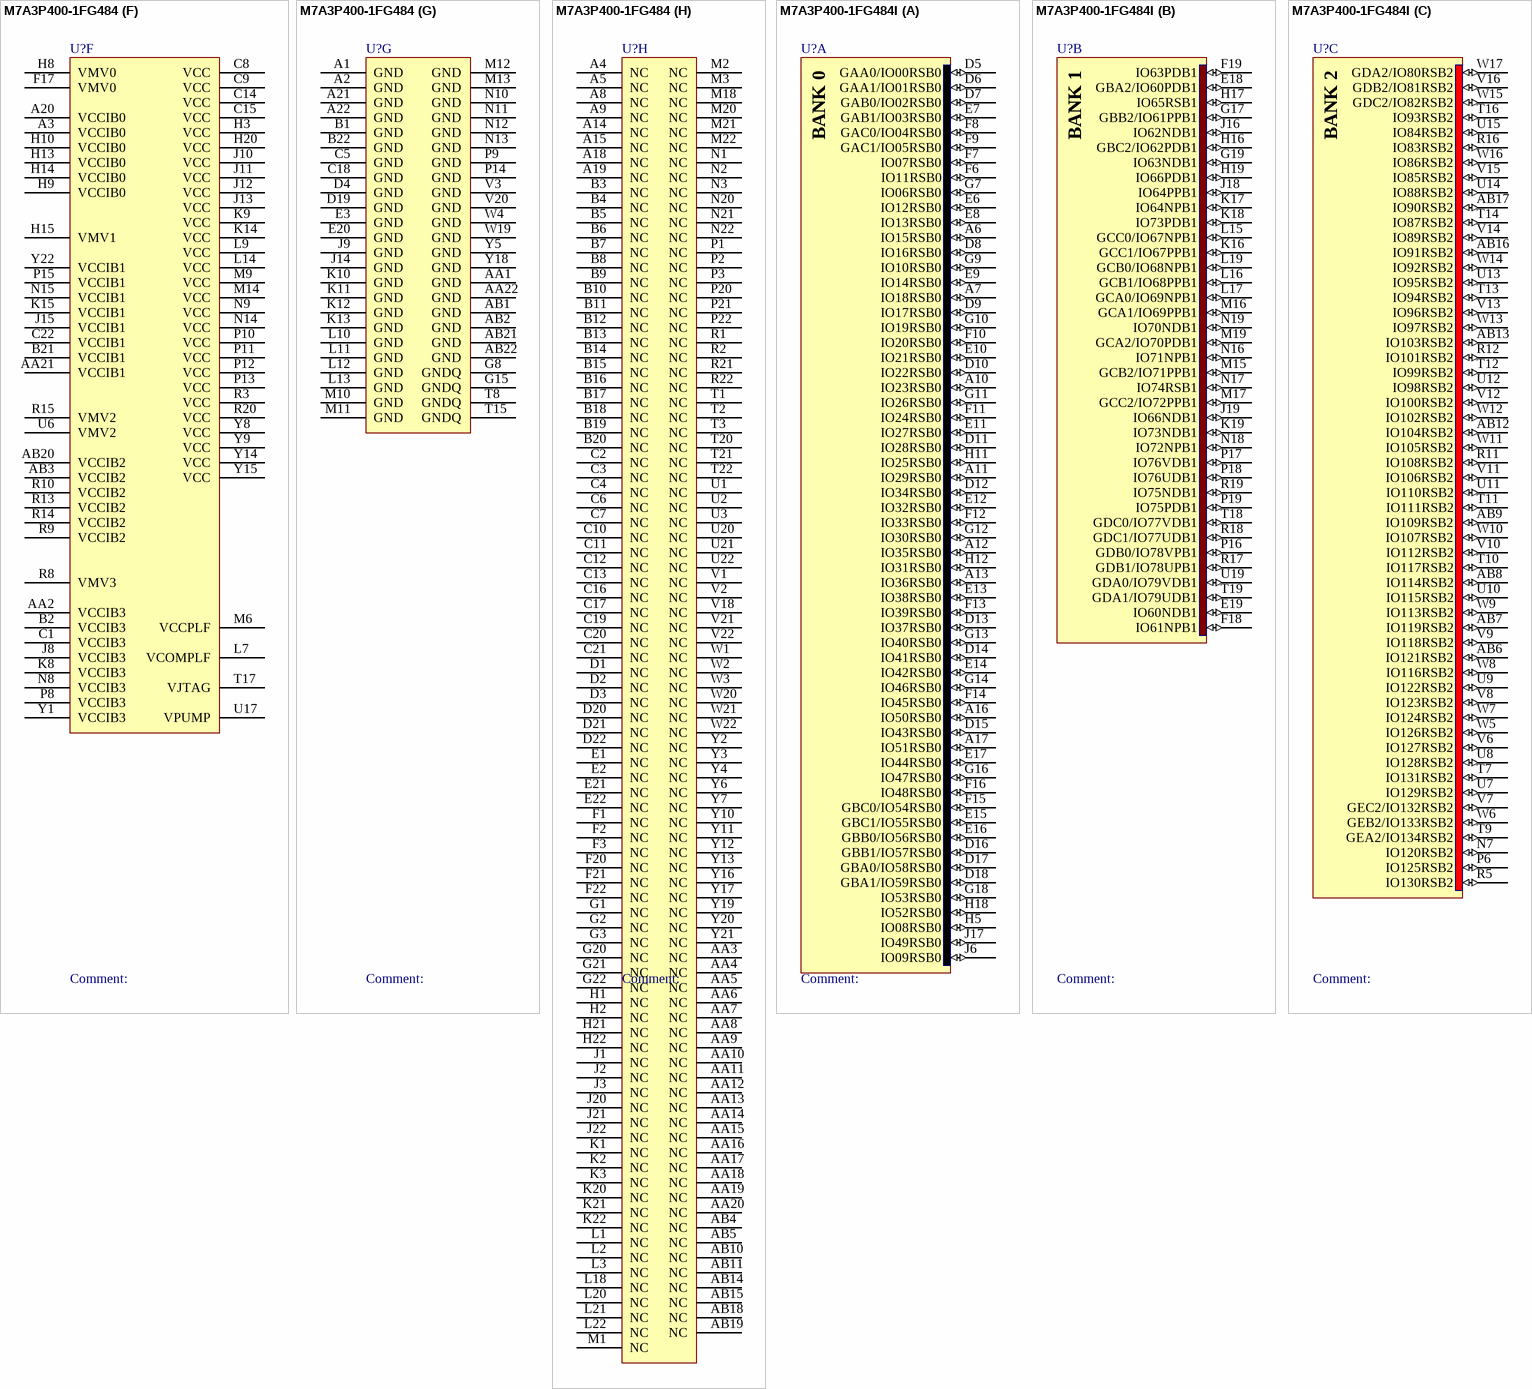
[diagram p258: symbols M7A3P400-1FG484 to M7A3P400-1FG484I]

## M7A3P400-1FG484
designator U?
M7-Ready ProASIC3 Flash Family FPGA, 194 User IOs, 400K System Gates, 54 Kbits RAM, 1 Kbit Flash ROM, 1 PLL, 484-Ball FBGA, Commercial Grade; DatasheetVersion: v1.1, Feb-2009; PackageVersion: rev39, Aug-2010; PackageReference: FG484; PackageDescription: 484-Ball Fine Pitch Plastic Ball Grid Array (FG484) - Fully Populated; Code_JEDEC: MS-034-AAJ-1; Code_IPC: BGA100P22X22-484; ComponentLink1Description: Manufacturer URL; ComponentLink1URL: http://www.actel.com/; ComponentLink2Description: ProASIC3 Datasheet; ComponentLink2URL: http://www.actel.com/documents/PA3_DS.pdf; ComponentLink3Description: Package Mechanical Drawings; ComponentLink3URL: http://www.actel.com/documents/PckgMechDrwngs.pdf; ComponentLink4Description: ProASIC3 Documents; ComponentLink4URL: http://www.actel.com/products/pa3/docs.aspx
footprint FG484 (BGA, 484-Leads, Body 23x23mm, Pitch 1mm)
part A pins: A6 IO15RSB0 (io), A7 IO18RSB0 (io), A10 IO23RSB0 (io), A11 IO29RSB0 (io), A12 IO35RSB0 (io), A13 IO36RSB0 (io), A16 IO50RSB0 (io), A17 IO51RSB0 (io), D5 GAA0/IO00RSB0 (io), D6 GAA1/IO01RSB0 (io), D7 GAB0/IO02RSB0 (io), D8 IO16RSB0 (io), D9 IO17RSB0 (io), D10 IO22RSB0 (io), D11 IO28RSB0 (io), D12 IO34RSB0 (io), D13 IO37RSB0 (io), D14 IO41RSB0 (io), D15 IO43RSB0 (io), D16 GBB1/IO57RSB0 (io), D17 GBA0/IO58RSB0 (io), D18 GBA1/IO59RSB0 (io), E6 IO12RSB0 (io), E7 GAB1/IO03RSB0 (io), E8 IO13RSB0 (io), E9 IO14RSB0 (io), E10 IO21RSB0 (io), E11 IO27RSB0 (io), E12 IO32RSB0 (io), E13 IO38RSB0 (io), E14 IO42RSB0 (io), E15 GBC1/IO55RSB0 (io), E16 GBB0/IO56RSB0 (io), E17 IO44RSB0 (io), F6 IO11RSB0 (io), F7 IO07RSB0 (io), F8 GAC0/IO04RSB0 (io), F9 GAC1/IO05RSB0 (io), F10 IO20RSB0 (io), F11 IO24RSB0 (io), F12 IO33RSB0 (io), F13 IO39RSB0 (io), F14 IO45RSB0 (io), F15 GBC0/IO54RSB0 (io), F16 IO48RSB0 (io), G7 IO06RSB0 (io), G9 IO10RSB0 (io), G10 IO19RSB0 (io), G11 IO26RSB0 (io), G12 IO30RSB0 (io), G13 IO40RSB0 (io), G14 IO46RSB0 (io), G16 IO47RSB0 (io), G18 IO53RSB0 (io), H5 IO08RSB0 (io), H11 IO25RSB0 (io), H12 IO31RSB0 (io), H18 IO52RSB0 (io), J6 IO09RSB0 (io), J17 IO49RSB0 (io)
part B pins: E18 GBA2/IO60PDB1 (io), E19 IO60NDB1 (io), F18 IO61NPB1 (io), F19 IO63PDB1 (io), G17 GBB2/IO61PPB1 (io), G19 IO63NDB1 (io), H16 GBC2/IO62PDB1 (io), H17 IO65RSB1 (io), H19 IO66PDB1 (io), J16 IO62NDB1 (io), J18 IO64PPB1 (io), J19 IO66NDB1 (io), K16 GCC1/IO67PPB1 (io), K17 IO64NPB1 (io), K18 IO73PDB1 (io), K19 IO73NDB1 (io), L15 GCC0/IO67NPB1 (io), L16 GCB1/IO68PPB1 (io), L17 GCA0/IO69NPB1 (io), L19 GCB0/IO68NPB1 (io), M15 GCB2/IO71PPB1 (io), M16 GCA1/IO69PPB1 (io), M17 GCC2/IO72PPB1 (io), M19 GCA2/IO70PDB1 (io), N16 IO71NPB1 (io), N17 IO74RSB1 (io), N18 IO72NPB1 (io), N19 IO70NDB1 (io), P16 GDB0/IO78VPB1 (io), P17 IO76VDB1 (io), P18 IO76UDB1 (io), P19 IO75PDB1 (io), R17 GDB1/IO78UPB1 (io), R18 GDC1/IO77UDB1 (io), R19 IO75NDB1 (io), T18 GDC0/IO77VDB1 (io), T19 GDA1/IO79UDB1 (io), U19 GDA0/IO79VDB1 (io)
part C pins: AB6 IO121RSB2 (io), AB7 IO119RSB2 (io), AB8 IO114RSB2 (io), AB9 IO109RSB2 (io), AB12 IO104RSB2 (io), AB13 IO103RSB2 (io), AB16 IO91RSB2 (io), AB17 IO90RSB2 (io), N7 IO120RSB2 (io), P6 IO125RSB2 (io), R5 IO130RSB2 (io), R11 IO108RSB2 (io), R12 IO101RSB2 (io), R16 IO83RSB2 (io), T7 IO131RSB2 (io), T9 GEA2/IO134RSB2 (io), T10 IO117RSB2 (io), T11 IO111RSB2 (io), T12 IO99RSB2 (io), T13 IO94RSB2 (io), T14 IO87RSB2 (io), T16 IO93RSB2 (io), U7 IO129RSB2 (io), U8 IO128RSB2 (io), U9 IO122RSB2 (io), U10 IO115RSB2 (io), U11 IO110RSB2 (io), U12 IO98RSB2 (io), U13 IO95RSB2 (io), U14 IO88RSB2 (io), U15 IO84RSB2 (io), V6 IO127RSB2 (io), V7 GEC2/IO132RSB2 (io), V8 IO123RSB2 (io), V9 IO118RSB2 (io), V10 IO112RSB2 (io), V11 IO106RSB2 (io), V12 IO100RSB2 (io), V13 IO96RSB2 (io), V14 IO89RSB2 (io), V15 IO85RSB2 (io), V16 GDB2/IO81RSB2 (io), W5 IO126RSB2 (io), W6 GEB2/IO133RSB2 (io), W7 IO124RSB2 (io), W8 IO116RSB2 (io), W9 IO113RSB2 (io), W10 IO107RSB2 (io), W11 IO105RSB2 (io), W12 IO102RSB2 (io), W13 IO97RSB2 (io), W14 IO92RSB2 (io), W15 GDC2/IO82RSB2 (io), W16 IO86RSB2 (io), W17 GDA2/IO80RSB2 (io)
part D pins: E4 GAB2/IO154UDB3 (io), E5 GAA2/IO155UDB3 (io), F4 IO154VDB3 (io), F5 IO155VDB3 (io), G4 IO151VDB3 (io), G5 IO151UDB3 (io), G6 GAC2/IO153UDB3 (io), H4 IO150PDB3 (io), H6 IO153VDB3 (io), H7 IO152VDB3 (io), J4 IO150NDB3 (io), J5 IO149NPB3 (io), J7 IO152UDB3 (io), K4 IO148NDB3 (io), K5 IO148PDB3 (io), K6 IO149PPB3 (io), K7 GFC1/IO147PPB3 (io), L4 GFB0/IO146NPB3 (io), L5 GFA0/IO145NDB3 (io), L6 GFB1/IO146PPB3 (io), L8 GFC0/IO147NPB3 (io), M4 GFA2/IO144PPB3 (io), M5 GFA1/IO145PDB3 (io), M7 IO143NDB3 (io), M8 GFB2/IO143PDB3 (io), N4 GFC2/IO142PDB3 (io), N5 IO144NPB3 (io), N6 IO141PPB3 (io), P4 IO142NDB3 (io), P5 IO141NPB3 (io), P7 IO139RSB3 (io), R4 IO140PDB3 (io), R6 IO138NPB3 (io), R7 GEC0/IO137NPB3 (io), T4 IO140NDB3 (io), T5 IO138PPB3 (io), T6 GEC1/IO137PPB3 (io), U4 GEB1/IO136PDB3 (io), U5 GEB0/IO136NDB3 (io), V4 GEA1/IO135PDB3 (io), V5 GEA0/IO135NDB3 (io)
part E pins: U16 TCK (in), U18 ~{TRST} (in), V17 TDI (in), V19 TDO (out), W18 TMS (in)
part F pins: A3 VCCIB0 (power), A20 VCCIB0 (power), AA2 VCCIB3 (power), AA21 VCCIB1 (power), AB3 VCCIB2 (power), AB20 VCCIB2 (power), B2 VCCIB3 (power), B21 VCCIB1 (power), C1 VCCIB3 (power), C8 VCC (power), C9 VCC (power), C14 VCC (power), C15 VCC (power), C22 VCCIB1 (power), F17 VMV0 (power), H3 VCC (power), H8 VMV0 (power), H9 VCCIB0 (power), H10 VCCIB0 (power), H13 VCCIB0 (power), H14 VCCIB0 (power), H15 VMV1 (power), H20 VCC (power), J8 VCCIB3 (power), J10 VCC (power), J11 VCC (power), J12 VCC (power), J13 VCC (power), J15 VCCIB1 (power), K8 VCCIB3 (power), K9 VCC (power), K14 VCC (power), K15 VCCIB1 (power), L7 VCOMPLF (power), L9 VCC (power), L14 VCC (power), M6 VCCPLF (power), M9 VCC (power), M14 VCC (power), N8 VCCIB3 (power), N9 VCC (power), N14 VCC (power), N15 VCCIB1 (power), P8 VCCIB3 (power), P10 VCC (power), P11 VCC (power), P12 VCC (power), P13 VCC (power), P15 VCCIB1 (power), R3 VCC (power), R8 VMV3 (power), R9 VCCIB2 (power), R10 VCCIB2 (power), R13 VCCIB2 (power), R14 VCCIB2 (power), R15 VMV2 (power), R20 VCC (power), T17 VJTAG (power), U6 VMV2 (power), U17 VPUMP (power), Y1 VCCIB3 (power), Y8 VCC (power), Y9 VCC (power), Y14 VCC (power), Y15 VCC (power), Y22 VCCIB1 (power)
part G pins: A1 GND (power), A2 GND (power), A21 GND (power), A22 GND (power), AA1 GND (power), AA22 GND (power), AB1 GND (power), AB2 GND (power), AB21 GND (power), AB22 GND (power), B1 GND (power), B22 GND (power), C5 GND (power), C18 GND (power), D4 GND (power), D19 GND (power), E3 GND (power), E20 GND (power), G8 GNDQ (power), G15 GNDQ (power), J9 GND (power), J14 GND (power), K10 GND (power), K11 GND (power), K12 GND (power), K13 GND (power), L10 GND (power), L11 GND (power), L12 GND (power), L13 GND (power), M10 GND (power), M11 GND (power), M12 GND (power), M13 GND (power), N10 GND (power), N11 GND (power), N12 GND (power), N13 GND (power), P9 GND (power), P14 GND (power), T8 GNDQ (power), T15 GNDQ (power), V3 GND (power), V20 GND (power), W4 GND (power), W19 GND (power), Y5 GND (power), Y18 GND (power)
part H pins: A4 NC, A5 NC, A8 NC, A9 NC, A14 NC, A15 NC, A18 NC, A19 NC, AA3 NC, AA4 NC, AA5 NC, AA6 NC, AA7 NC, AA8 NC, AA9 NC, AA10 NC, AA11 NC, AA12 NC, AA13 NC, AA14 NC, AA15 NC, AA16 NC, AA17 NC, AA18 NC, AA19 NC, AA20 NC, AB4 NC, AB5 NC, AB10 NC, AB11 NC, AB14 NC, AB15 NC, AB18 NC, AB19 NC, B3 NC, B4 NC, B5 NC, B6 NC, B7 NC, B8 NC, B9 NC, B10 NC, B11 NC, B12 NC, B13 NC, B14 NC, B15 NC, B16 NC, B17 NC, B18 NC, B19 NC, B20 NC, C2 NC, C3 NC, C4 NC, C6 NC, C7 NC, C10 NC, C11 NC, C12 NC, C13 NC, C16 NC, C17 NC, C19 NC, C20 NC, C21 NC, D1 NC, D2 NC, D3 NC, D20 NC, D21 NC, D22 NC, E1 NC, E2 NC, E21 NC, E22 NC, F1 NC, F2 NC, F3 NC, F20 NC, F21 NC, F22 NC, G1 NC, G2 NC, G3 NC, G20 NC, G21 NC, G22 NC, H1 NC, H2 NC, H21 NC, H22 NC, J1 NC, J2 NC, J3 NC, J20 NC, J21 NC, J22 NC, K1 NC, K2 NC, K3 NC, K20 NC, K21 NC, K22 NC, L1 NC, L2 NC, L3 NC, L18 NC, L20 NC, L21 NC, L22 NC, M1 NC, M2 NC, M3 NC, M18 NC, M20 NC, M21 NC, M22 NC, N1 NC, N2 NC, N3 NC, N20 NC, N21 NC, N22 NC, P1 NC, P2 NC, P3 NC, P20 NC, P21 NC, P22 NC, R1 NC, R2 NC, R21 NC, R22 NC, T1 NC, T2 NC, T3 NC, T20 NC, T21 NC, T22 NC, U1 NC, U2 NC, U3 NC, U20 NC, U21 NC, U22 NC, V1 NC, V2 NC, V18 NC, V21 NC, V22 NC, W1 NC, W2 NC, W3 NC, W20 NC, W21 NC, W22 NC, Y2 NC, Y3 NC, Y4 NC, Y6 NC, Y7 NC, Y10 NC, Y11 NC, Y12 NC, Y13 NC, Y16 NC, Y17 NC, Y19 NC, Y20 NC, Y21 NC
part A text: BANK 0
part B text: BANK 1
part C text: BANK 2
part D text: BANK 3

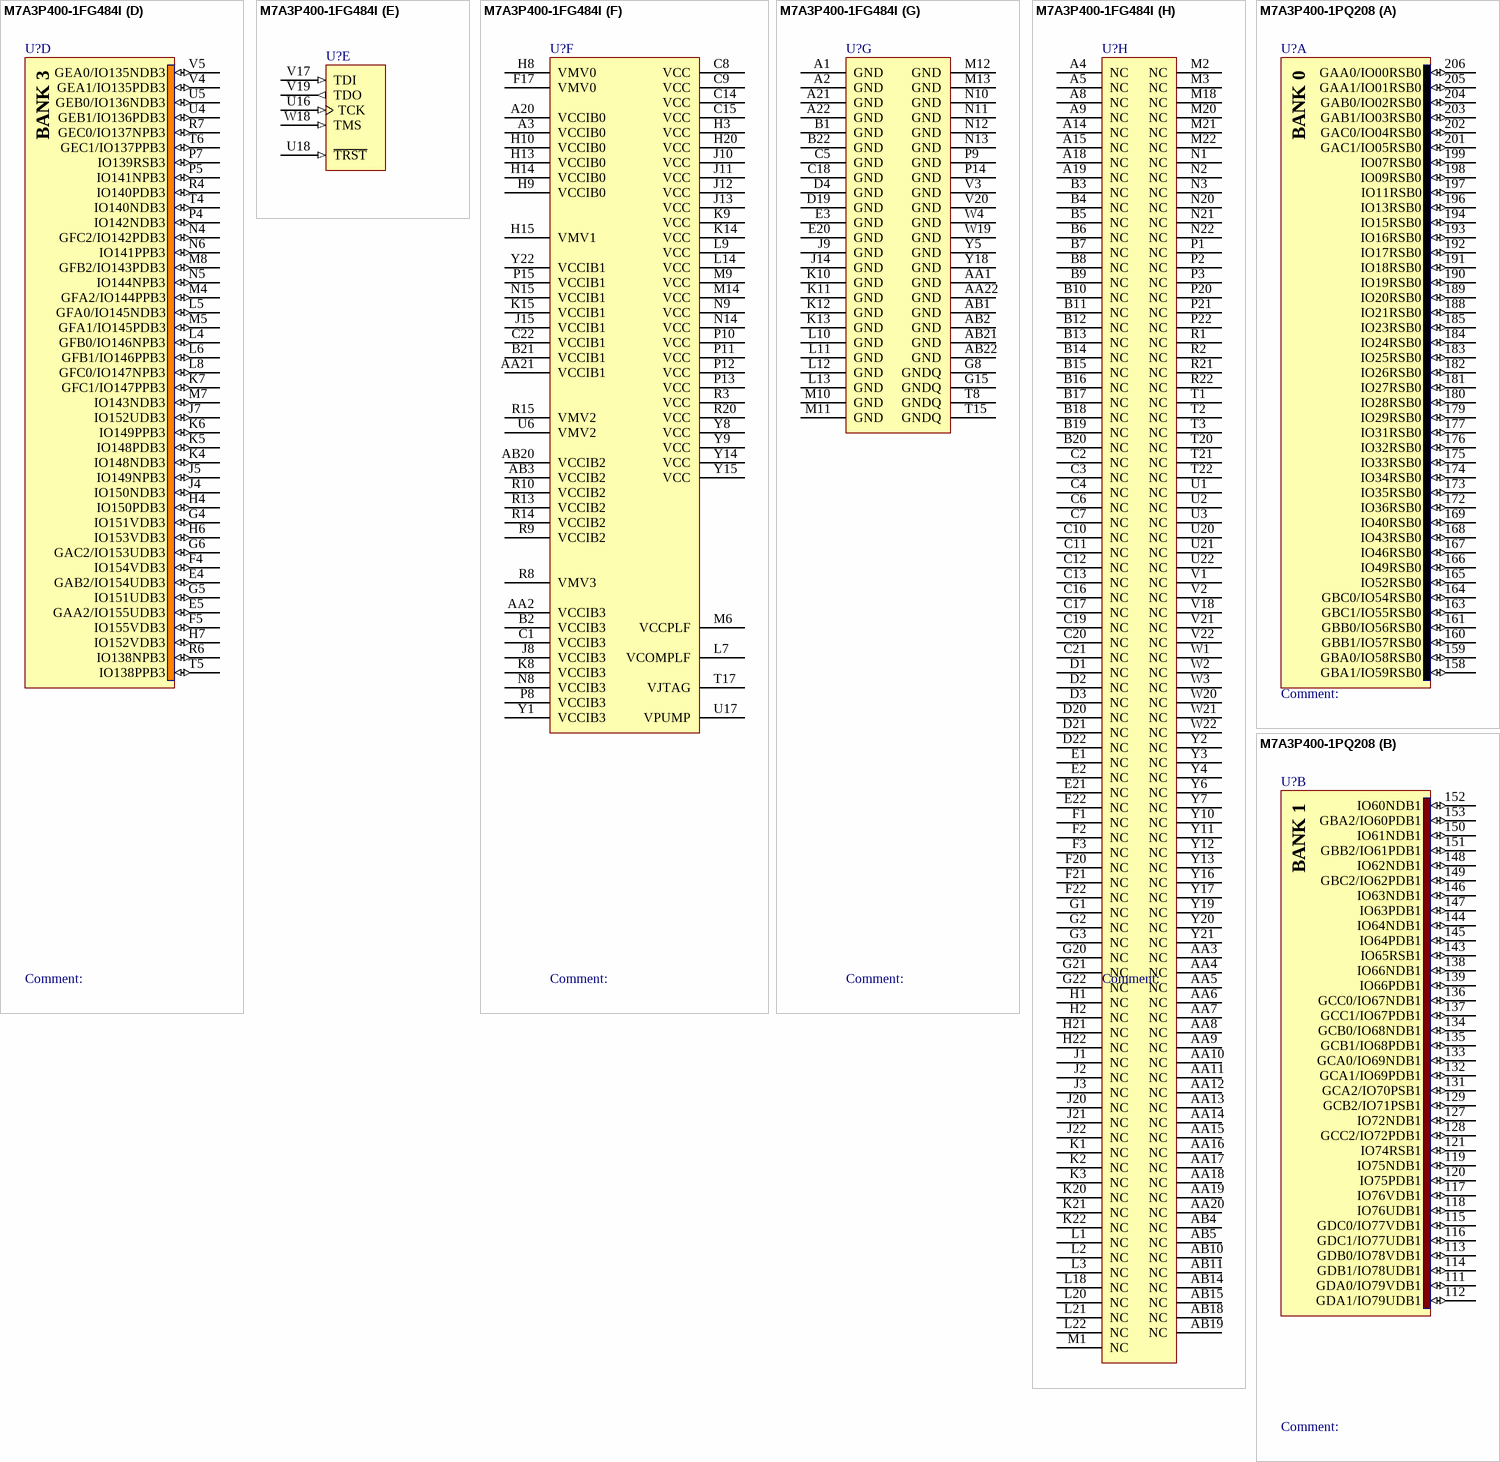
[diagram p259: symbols M7A3P400-1FG484I to M7A3P400-1PQ208]

## M7A3P400-1FG484I
designator U?
M7-Ready ProASIC3 Flash Family FPGA, 194 User IOs, 400K System Gates, 54 Kbits RAM, 1 Kbit Flash ROM, 1 PLL, 484-Ball FBGA, Industrial Grade; DatasheetVersion: v1.1, Feb-2009; PackageVersion: rev39, Aug-2010; PackageReference: FG484; PackageDescription: 484-Ball Fine Pitch Plastic Ball Grid Array (FG484) - Fully Populated; Code_JEDEC: MS-034-AAJ-1; Code_IPC: BGA100P22X22-484; ComponentLink1Description: Manufacturer URL; ComponentLink1URL: http://www.actel.com/; ComponentLink2Description: ProASIC3 Datasheet; ComponentLink2URL: http://www.actel.com/documents/PA3_DS.pdf; ComponentLink3Description: Package Mechanical Drawings; ComponentLink3URL: http://www.actel.com/documents/PckgMechDrwngs.pdf; ComponentLink4Description: ProASIC3 Documents; ComponentLink4URL: http://www.actel.com/products/pa3/docs.aspx
footprint FG484 (BGA, 484-Leads, Body 23x23mm, Pitch 1mm)
part A pins: A6 IO15RSB0 (io), A7 IO18RSB0 (io), A10 IO23RSB0 (io), A11 IO29RSB0 (io), A12 IO35RSB0 (io), A13 IO36RSB0 (io), A16 IO50RSB0 (io), A17 IO51RSB0 (io), D5 GAA0/IO00RSB0 (io), D6 GAA1/IO01RSB0 (io), D7 GAB0/IO02RSB0 (io), D8 IO16RSB0 (io), D9 IO17RSB0 (io), D10 IO22RSB0 (io), D11 IO28RSB0 (io), D12 IO34RSB0 (io), D13 IO37RSB0 (io), D14 IO41RSB0 (io), D15 IO43RSB0 (io), D16 GBB1/IO57RSB0 (io), D17 GBA0/IO58RSB0 (io), D18 GBA1/IO59RSB0 (io), E6 IO12RSB0 (io), E7 GAB1/IO03RSB0 (io), E8 IO13RSB0 (io), E9 IO14RSB0 (io), E10 IO21RSB0 (io), E11 IO27RSB0 (io), E12 IO32RSB0 (io), E13 IO38RSB0 (io), E14 IO42RSB0 (io), E15 GBC1/IO55RSB0 (io), E16 GBB0/IO56RSB0 (io), E17 IO44RSB0 (io), F6 IO11RSB0 (io), F7 IO07RSB0 (io), F8 GAC0/IO04RSB0 (io), F9 GAC1/IO05RSB0 (io), F10 IO20RSB0 (io), F11 IO24RSB0 (io), F12 IO33RSB0 (io), F13 IO39RSB0 (io), F14 IO45RSB0 (io), F15 GBC0/IO54RSB0 (io), F16 IO48RSB0 (io), G7 IO06RSB0 (io), G9 IO10RSB0 (io), G10 IO19RSB0 (io), G11 IO26RSB0 (io), G12 IO30RSB0 (io), G13 IO40RSB0 (io), G14 IO46RSB0 (io), G16 IO47RSB0 (io), G18 IO53RSB0 (io), H5 IO08RSB0 (io), H11 IO25RSB0 (io), H12 IO31RSB0 (io), H18 IO52RSB0 (io), J6 IO09RSB0 (io), J17 IO49RSB0 (io)
part B pins: E18 GBA2/IO60PDB1 (io), E19 IO60NDB1 (io), F18 IO61NPB1 (io), F19 IO63PDB1 (io), G17 GBB2/IO61PPB1 (io), G19 IO63NDB1 (io), H16 GBC2/IO62PDB1 (io), H17 IO65RSB1 (io), H19 IO66PDB1 (io), J16 IO62NDB1 (io), J18 IO64PPB1 (io), J19 IO66NDB1 (io), K16 GCC1/IO67PPB1 (io), K17 IO64NPB1 (io), K18 IO73PDB1 (io), K19 IO73NDB1 (io), L15 GCC0/IO67NPB1 (io), L16 GCB1/IO68PPB1 (io), L17 GCA0/IO69NPB1 (io), L19 GCB0/IO68NPB1 (io), M15 GCB2/IO71PPB1 (io), M16 GCA1/IO69PPB1 (io), M17 GCC2/IO72PPB1 (io), M19 GCA2/IO70PDB1 (io), N16 IO71NPB1 (io), N17 IO74RSB1 (io), N18 IO72NPB1 (io), N19 IO70NDB1 (io), P16 GDB0/IO78VPB1 (io), P17 IO76VDB1 (io), P18 IO76UDB1 (io), P19 IO75PDB1 (io), R17 GDB1/IO78UPB1 (io), R18 GDC1/IO77UDB1 (io), R19 IO75NDB1 (io), T18 GDC0/IO77VDB1 (io), T19 GDA1/IO79UDB1 (io), U19 GDA0/IO79VDB1 (io)
part C pins: AB6 IO121RSB2 (io), AB7 IO119RSB2 (io), AB8 IO114RSB2 (io), AB9 IO109RSB2 (io), AB12 IO104RSB2 (io), AB13 IO103RSB2 (io), AB16 IO91RSB2 (io), AB17 IO90RSB2 (io), N7 IO120RSB2 (io), P6 IO125RSB2 (io), R5 IO130RSB2 (io), R11 IO108RSB2 (io), R12 IO101RSB2 (io), R16 IO83RSB2 (io), T7 IO131RSB2 (io), T9 GEA2/IO134RSB2 (io), T10 IO117RSB2 (io), T11 IO111RSB2 (io), T12 IO99RSB2 (io), T13 IO94RSB2 (io), T14 IO87RSB2 (io), T16 IO93RSB2 (io), U7 IO129RSB2 (io), U8 IO128RSB2 (io), U9 IO122RSB2 (io), U10 IO115RSB2 (io), U11 IO110RSB2 (io), U12 IO98RSB2 (io), U13 IO95RSB2 (io), U14 IO88RSB2 (io), U15 IO84RSB2 (io), V6 IO127RSB2 (io), V7 GEC2/IO132RSB2 (io), V8 IO123RSB2 (io), V9 IO118RSB2 (io), V10 IO112RSB2 (io), V11 IO106RSB2 (io), V12 IO100RSB2 (io), V13 IO96RSB2 (io), V14 IO89RSB2 (io), V15 IO85RSB2 (io), V16 GDB2/IO81RSB2 (io), W5 IO126RSB2 (io), W6 GEB2/IO133RSB2 (io), W7 IO124RSB2 (io), W8 IO116RSB2 (io), W9 IO113RSB2 (io), W10 IO107RSB2 (io), W11 IO105RSB2 (io), W12 IO102RSB2 (io), W13 IO97RSB2 (io), W14 IO92RSB2 (io), W15 GDC2/IO82RSB2 (io), W16 IO86RSB2 (io), W17 GDA2/IO80RSB2 (io)
part D pins: E4 GAB2/IO154UDB3 (io), E5 GAA2/IO155UDB3 (io), F4 IO154VDB3 (io), F5 IO155VDB3 (io), G4 IO151VDB3 (io), G5 IO151UDB3 (io), G6 GAC2/IO153UDB3 (io), H4 IO150PDB3 (io), H6 IO153VDB3 (io), H7 IO152VDB3 (io), J4 IO150NDB3 (io), J5 IO149NPB3 (io), J7 IO152UDB3 (io), K4 IO148NDB3 (io), K5 IO148PDB3 (io), K6 IO149PPB3 (io), K7 GFC1/IO147PPB3 (io), L4 GFB0/IO146NPB3 (io), L5 GFA0/IO145NDB3 (io), L6 GFB1/IO146PPB3 (io), L8 GFC0/IO147NPB3 (io), M4 GFA2/IO144PPB3 (io), M5 GFA1/IO145PDB3 (io), M7 IO143NDB3 (io), M8 GFB2/IO143PDB3 (io), N4 GFC2/IO142PDB3 (io), N5 IO144NPB3 (io), N6 IO141PPB3 (io), P4 IO142NDB3 (io), P5 IO141NPB3 (io), P7 IO139RSB3 (io), R4 IO140PDB3 (io), R6 IO138NPB3 (io), R7 GEC0/IO137NPB3 (io), T4 IO140NDB3 (io), T5 IO138PPB3 (io), T6 GEC1/IO137PPB3 (io), U4 GEB1/IO136PDB3 (io), U5 GEB0/IO136NDB3 (io), V4 GEA1/IO135PDB3 (io), V5 GEA0/IO135NDB3 (io)
part E pins: U16 TCK (in), U18 ~{TRST} (in), V17 TDI (in), V19 TDO (out), W18 TMS (in)
part F pins: A3 VCCIB0 (power), A20 VCCIB0 (power), AA2 VCCIB3 (power), AA21 VCCIB1 (power), AB3 VCCIB2 (power), AB20 VCCIB2 (power), B2 VCCIB3 (power), B21 VCCIB1 (power), C1 VCCIB3 (power), C8 VCC (power), C9 VCC (power), C14 VCC (power), C15 VCC (power), C22 VCCIB1 (power), F17 VMV0 (power), H3 VCC (power), H8 VMV0 (power), H9 VCCIB0 (power), H10 VCCIB0 (power), H13 VCCIB0 (power), H14 VCCIB0 (power), H15 VMV1 (power), H20 VCC (power), J8 VCCIB3 (power), J10 VCC (power), J11 VCC (power), J12 VCC (power), J13 VCC (power), J15 VCCIB1 (power), K8 VCCIB3 (power), K9 VCC (power), K14 VCC (power), K15 VCCIB1 (power), L7 VCOMPLF (power), L9 VCC (power), L14 VCC (power), M6 VCCPLF (power), M9 VCC (power), M14 VCC (power), N8 VCCIB3 (power), N9 VCC (power), N14 VCC (power), N15 VCCIB1 (power), P8 VCCIB3 (power), P10 VCC (power), P11 VCC (power), P12 VCC (power), P13 VCC (power), P15 VCCIB1 (power), R3 VCC (power), R8 VMV3 (power), R9 VCCIB2 (power), R10 VCCIB2 (power), R13 VCCIB2 (power), R14 VCCIB2 (power), R15 VMV2 (power), R20 VCC (power), T17 VJTAG (power), U6 VMV2 (power), U17 VPUMP (power), Y1 VCCIB3 (power), Y8 VCC (power), Y9 VCC (power), Y14 VCC (power), Y15 VCC (power), Y22 VCCIB1 (power)
part G pins: A1 GND (power), A2 GND (power), A21 GND (power), A22 GND (power), AA1 GND (power), AA22 GND (power), AB1 GND (power), AB2 GND (power), AB21 GND (power), AB22 GND (power), B1 GND (power), B22 GND (power), C5 GND (power), C18 GND (power), D4 GND (power), D19 GND (power), E3 GND (power), E20 GND (power), G8 GNDQ (power), G15 GNDQ (power), J9 GND (power), J14 GND (power), K10 GND (power), K11 GND (power), K12 GND (power), K13 GND (power), L10 GND (power), L11 GND (power), L12 GND (power), L13 GND (power), M10 GND (power), M11 GND (power), M12 GND (power), M13 GND (power), N10 GND (power), N11 GND (power), N12 GND (power), N13 GND (power), P9 GND (power), P14 GND (power), T8 GNDQ (power), T15 GNDQ (power), V3 GND (power), V20 GND (power), W4 GND (power), W19 GND (power), Y5 GND (power), Y18 GND (power)
part H pins: A4 NC, A5 NC, A8 NC, A9 NC, A14 NC, A15 NC, A18 NC, A19 NC, AA3 NC, AA4 NC, AA5 NC, AA6 NC, AA7 NC, AA8 NC, AA9 NC, AA10 NC, AA11 NC, AA12 NC, AA13 NC, AA14 NC, AA15 NC, AA16 NC, AA17 NC, AA18 NC, AA19 NC, AA20 NC, AB4 NC, AB5 NC, AB10 NC, AB11 NC, AB14 NC, AB15 NC, AB18 NC, AB19 NC, B3 NC, B4 NC, B5 NC, B6 NC, B7 NC, B8 NC, B9 NC, B10 NC, B11 NC, B12 NC, B13 NC, B14 NC, B15 NC, B16 NC, B17 NC, B18 NC, B19 NC, B20 NC, C2 NC, C3 NC, C4 NC, C6 NC, C7 NC, C10 NC, C11 NC, C12 NC, C13 NC, C16 NC, C17 NC, C19 NC, C20 NC, C21 NC, D1 NC, D2 NC, D3 NC, D20 NC, D21 NC, D22 NC, E1 NC, E2 NC, E21 NC, E22 NC, F1 NC, F2 NC, F3 NC, F20 NC, F21 NC, F22 NC, G1 NC, G2 NC, G3 NC, G20 NC, G21 NC, G22 NC, H1 NC, H2 NC, H21 NC, H22 NC, J1 NC, J2 NC, J3 NC, J20 NC, J21 NC, J22 NC, K1 NC, K2 NC, K3 NC, K20 NC, K21 NC, K22 NC, L1 NC, L2 NC, L3 NC, L18 NC, L20 NC, L21 NC, L22 NC, M1 NC, M2 NC, M3 NC, M18 NC, M20 NC, M21 NC, M22 NC, N1 NC, N2 NC, N3 NC, N20 NC, N21 NC, N22 NC, P1 NC, P2 NC, P3 NC, P20 NC, P21 NC, P22 NC, R1 NC, R2 NC, R21 NC, R22 NC, T1 NC, T2 NC, T3 NC, T20 NC, T21 NC, T22 NC, U1 NC, U2 NC, U3 NC, U20 NC, U21 NC, U22 NC, V1 NC, V2 NC, V18 NC, V21 NC, V22 NC, W1 NC, W2 NC, W3 NC, W20 NC, W21 NC, W22 NC, Y2 NC, Y3 NC, Y4 NC, Y6 NC, Y7 NC, Y10 NC, Y11 NC, Y12 NC, Y13 NC, Y16 NC, Y17 NC, Y19 NC, Y20 NC, Y21 NC
part A text: BANK 0
part B text: BANK 1
part C text: BANK 2
part D text: BANK 3

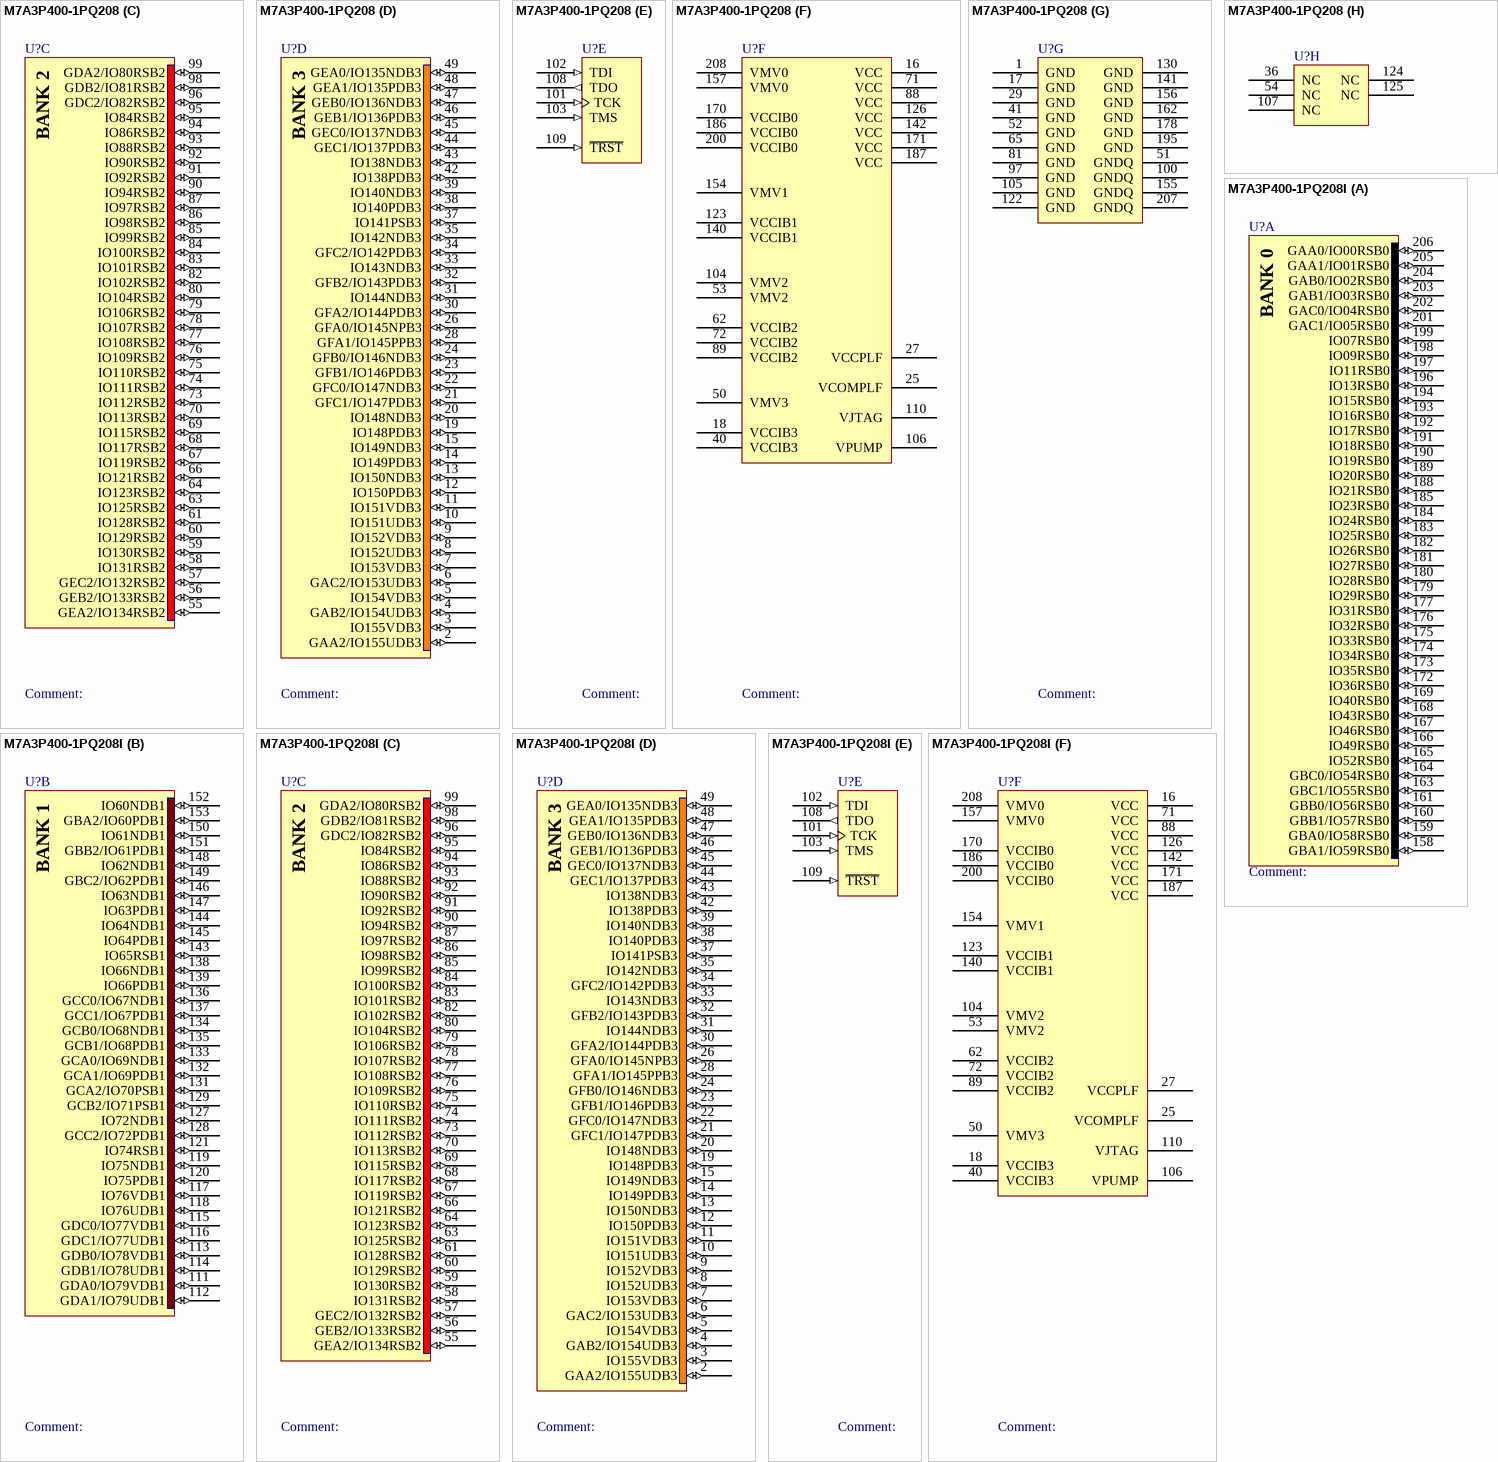
[diagram p260: symbols M7A3P400-1PQ208 to M7A3P400-1PQ208I]

## M7A3P400-1PQ208
designator U?
M7-Ready ProASIC3 Flash Family FPGA, 151 User IOs, 400K System Gates, 54 Kbits RAM, 1 Kbit Flash ROM, 1 PLL, 208-Pin PQFP, Commercial Grade; DatasheetVersion: v1.1, Feb-2009; PackageVersion: ver11.2, Nov-2009; PackageReference: PQ208; PackageDescription: 208-Pin Plastic Quad Flat Pack (PQ208); Code_JEDEC: MS-029-FA-1; ComponentLink1Description: Manufacturer URL; ComponentLink1URL: http://www.actel.com/; ComponentLink2Description: ProASIC3 Datasheet; ComponentLink2URL: http://www.actel.com/documents/PA3_DS.pdf; ComponentLink3Description: Package Mechanical Drawings; ComponentLink3URL: http://www.actel.com/documents/PckgMechDrwngs.pdf; ComponentLink4Description: ProASIC3 Documents; ComponentLink4URL: http://www.actel.com/products/pa3/docs.aspx
footprint PQ208_N (Shrink QFP, 208-Leads, Body 28x28mm, Pitch 0.5mm, IPC Medium Density)
footprint PQ208_L (Shrink QFP, 208-Leads, Body 28x28mm, Pitch 0.5mm, IPC High Density)
footprint PQ208_M (Shrink QFP, 208-Leads, Body 28x28mm, Pitch 0.5mm, IPC Low Density)
part A pins: 158 GBA1/IO59RSB0 (io), 159 GBA0/IO58RSB0 (io), 160 GBB1/IO57RSB0 (io), 161 GBB0/IO56RSB0 (io), 163 GBC1/IO55RSB0 (io), 164 GBC0/IO54RSB0 (io), 165 IO52RSB0 (io), 166 IO49RSB0 (io), 167 IO46RSB0 (io), 168 IO43RSB0 (io), 169 IO40RSB0 (io), 172 IO36RSB0 (io), 173 IO35RSB0 (io), 174 IO34RSB0 (io), 175 IO33RSB0 (io), 176 IO32RSB0 (io), 177 IO31RSB0 (io), 179 IO29RSB0 (io), 180 IO28RSB0 (io), 181 IO27RSB0 (io), 182 IO26RSB0 (io), 183 IO25RSB0 (io), 184 IO24RSB0 (io), 185 IO23RSB0 (io), 188 IO21RSB0 (io), 189 IO20RSB0 (io), 190 IO19RSB0 (io), 191 IO18RSB0 (io), 192 IO17RSB0 (io), 193 IO16RSB0 (io), 194 IO15RSB0 (io), 196 IO13RSB0 (io), 197 IO11RSB0 (io), 198 IO09RSB0 (io), 199 IO07RSB0 (io), 201 GAC1/IO05RSB0 (io), 202 GAC0/IO04RSB0 (io), 203 GAB1/IO03RSB0 (io), 204 GAB0/IO02RSB0 (io), 205 GAA1/IO01RSB0 (io), 206 GAA0/IO00RSB0 (io)
part B pins: 111 GDA0/IO79VDB1 (io), 112 GDA1/IO79UDB1 (io), 113 GDB0/IO78VDB1 (io), 114 GDB1/IO78UDB1 (io), 115 GDC0/IO77VDB1 (io), 116 GDC1/IO77UDB1 (io), 117 IO76VDB1 (io), 118 IO76UDB1 (io), 119 IO75NDB1 (io), 120 IO75PDB1 (io), 121 IO74RSB1 (io), 127 IO72NDB1 (io), 128 GCC2/IO72PDB1 (io), 129 GCB2/IO71PSB1 (io), 131 GCA2/IO70PSB1 (io), 132 GCA1/IO69PDB1 (io), 133 GCA0/IO69NDB1 (io), 134 GCB0/IO68NDB1 (io), 135 GCB1/IO68PDB1 (io), 136 GCC0/IO67NDB1 (io), 137 GCC1/IO67PDB1 (io), 138 IO66NDB1 (io), 139 IO66PDB1 (io), 143 IO65RSB1 (io), 144 IO64NDB1 (io), 145 IO64PDB1 (io), 146 IO63NDB1 (io), 147 IO63PDB1 (io), 148 IO62NDB1 (io), 149 GBC2/IO62PDB1 (io), 150 IO61NDB1 (io), 151 GBB2/IO61PDB1 (io), 152 IO60NDB1 (io), 153 GBA2/IO60PDB1 (io)
part C pins: 55 GEA2/IO134RSB2 (io), 56 GEB2/IO133RSB2 (io), 57 GEC2/IO132RSB2 (io), 58 IO131RSB2 (io), 59 IO130RSB2 (io), 60 IO129RSB2 (io), 61 IO128RSB2 (io), 63 IO125RSB2 (io), 64 IO123RSB2 (io), 66 IO121RSB2 (io), 67 IO119RSB2 (io), 68 IO117RSB2 (io), 69 IO115RSB2 (io), 70 IO113RSB2 (io), 73 IO112RSB2 (io), 74 IO111RSB2 (io), 75 IO110RSB2 (io), 76 IO109RSB2 (io), 77 IO108RSB2 (io), 78 IO107RSB2 (io), 79 IO106RSB2 (io), 80 IO104RSB2 (io), 82 IO102RSB2 (io), 83 IO101RSB2 (io), 84 IO100RSB2 (io), 85 IO99RSB2 (io), 86 IO98RSB2 (io), 87 IO97RSB2 (io), 90 IO94RSB2 (io), 91 IO92RSB2 (io), 92 IO90RSB2 (io), 93 IO88RSB2 (io), 94 IO86RSB2 (io), 95 IO84RSB2 (io), 96 GDC2/IO82RSB2 (io), 98 GDB2/IO81RSB2 (io), 99 GDA2/IO80RSB2 (io)
part D pins: 2 GAA2/IO155UDB3 (io), 3 IO155VDB3 (io), 4 GAB2/IO154UDB3 (io), 5 IO154VDB3 (io), 6 GAC2/IO153UDB3 (io), 7 IO153VDB3 (io), 8 IO152UDB3 (io), 9 IO152VDB3 (io), 10 IO151UDB3 (io), 11 IO151VDB3 (io), 12 IO150PDB3 (io), 13 IO150NDB3 (io), 14 IO149PDB3 (io), 15 IO149NDB3 (io), 19 IO148PDB3 (io), 20 IO148NDB3 (io), 21 GFC1/IO147PDB3 (io), 22 GFC0/IO147NDB3 (io), 23 GFB1/IO146PDB3 (io), 24 GFB0/IO146NDB3 (io), 26 GFA0/IO145NPB3 (io), 28 GFA1/IO145PPB3 (io), 30 GFA2/IO144PDB3 (io), 31 IO144NDB3 (io), 32 GFB2/IO143PDB3 (io), 33 IO143NDB3 (io), 34 GFC2/IO142PDB3 (io), 35 IO142NDB3 (io), 37 IO141PSB3 (io), 38 IO140PDB3 (io), 39 IO140NDB3 (io), 42 IO138PDB3 (io), 43 IO138NDB3 (io), 44 GEC1/IO137PDB3 (io), 45 GEC0/IO137NDB3 (io), 46 GEB1/IO136PDB3 (io), 47 GEB0/IO136NDB3 (io), 48 GEA1/IO135PDB3 (io), 49 GEA0/IO135NDB3 (io)
part E pins: 101 TCK (in), 102 TDI (in), 103 TMS (in), 108 TDO (out), 109 ~{TRST} (in)
part F pins: 16 VCC (power), 18 VCCIB3 (power), 25 VCOMPLF (power), 27 VCCPLF (power), 40 VCCIB3 (power), 50 VMV3 (power), 53 VMV2 (power), 62 VCCIB2 (power), 71 VCC (power), 72 VCCIB2 (power), 88 VCC (power), 89 VCCIB2 (power), 104 VMV2 (power), 106 VPUMP (power), 110 VJTAG (power), 123 VCCIB1 (power), 126 VCC (power), 140 VCCIB1 (power), 142 VCC (power), 154 VMV1 (power), 157 VMV0 (power), 170 VCCIB0 (power), 171 VCC (power), 186 VCCIB0 (power), 187 VCC (power), 200 VCCIB0 (power), 208 VMV0 (power)
part G pins: 1 GND (power), 17 GND (power), 29 GND (power), 41 GND (power), 51 GNDQ (power), 52 GND (power), 65 GND (power), 81 GND (power), 97 GND (power), 100 GNDQ (power), 105 GND (power), 122 GND (power), 130 GND (power), 141 GND (power), 155 GNDQ (power), 156 GND (power), 162 GND (power), 178 GND (power), 195 GND (power), 207 GNDQ (power)
part H pins: 36 NC, 54 NC, 107 NC, 124 NC, 125 NC
part A text: BANK 0
part B text: BANK 1
part C text: BANK 2
part D text: BANK 3

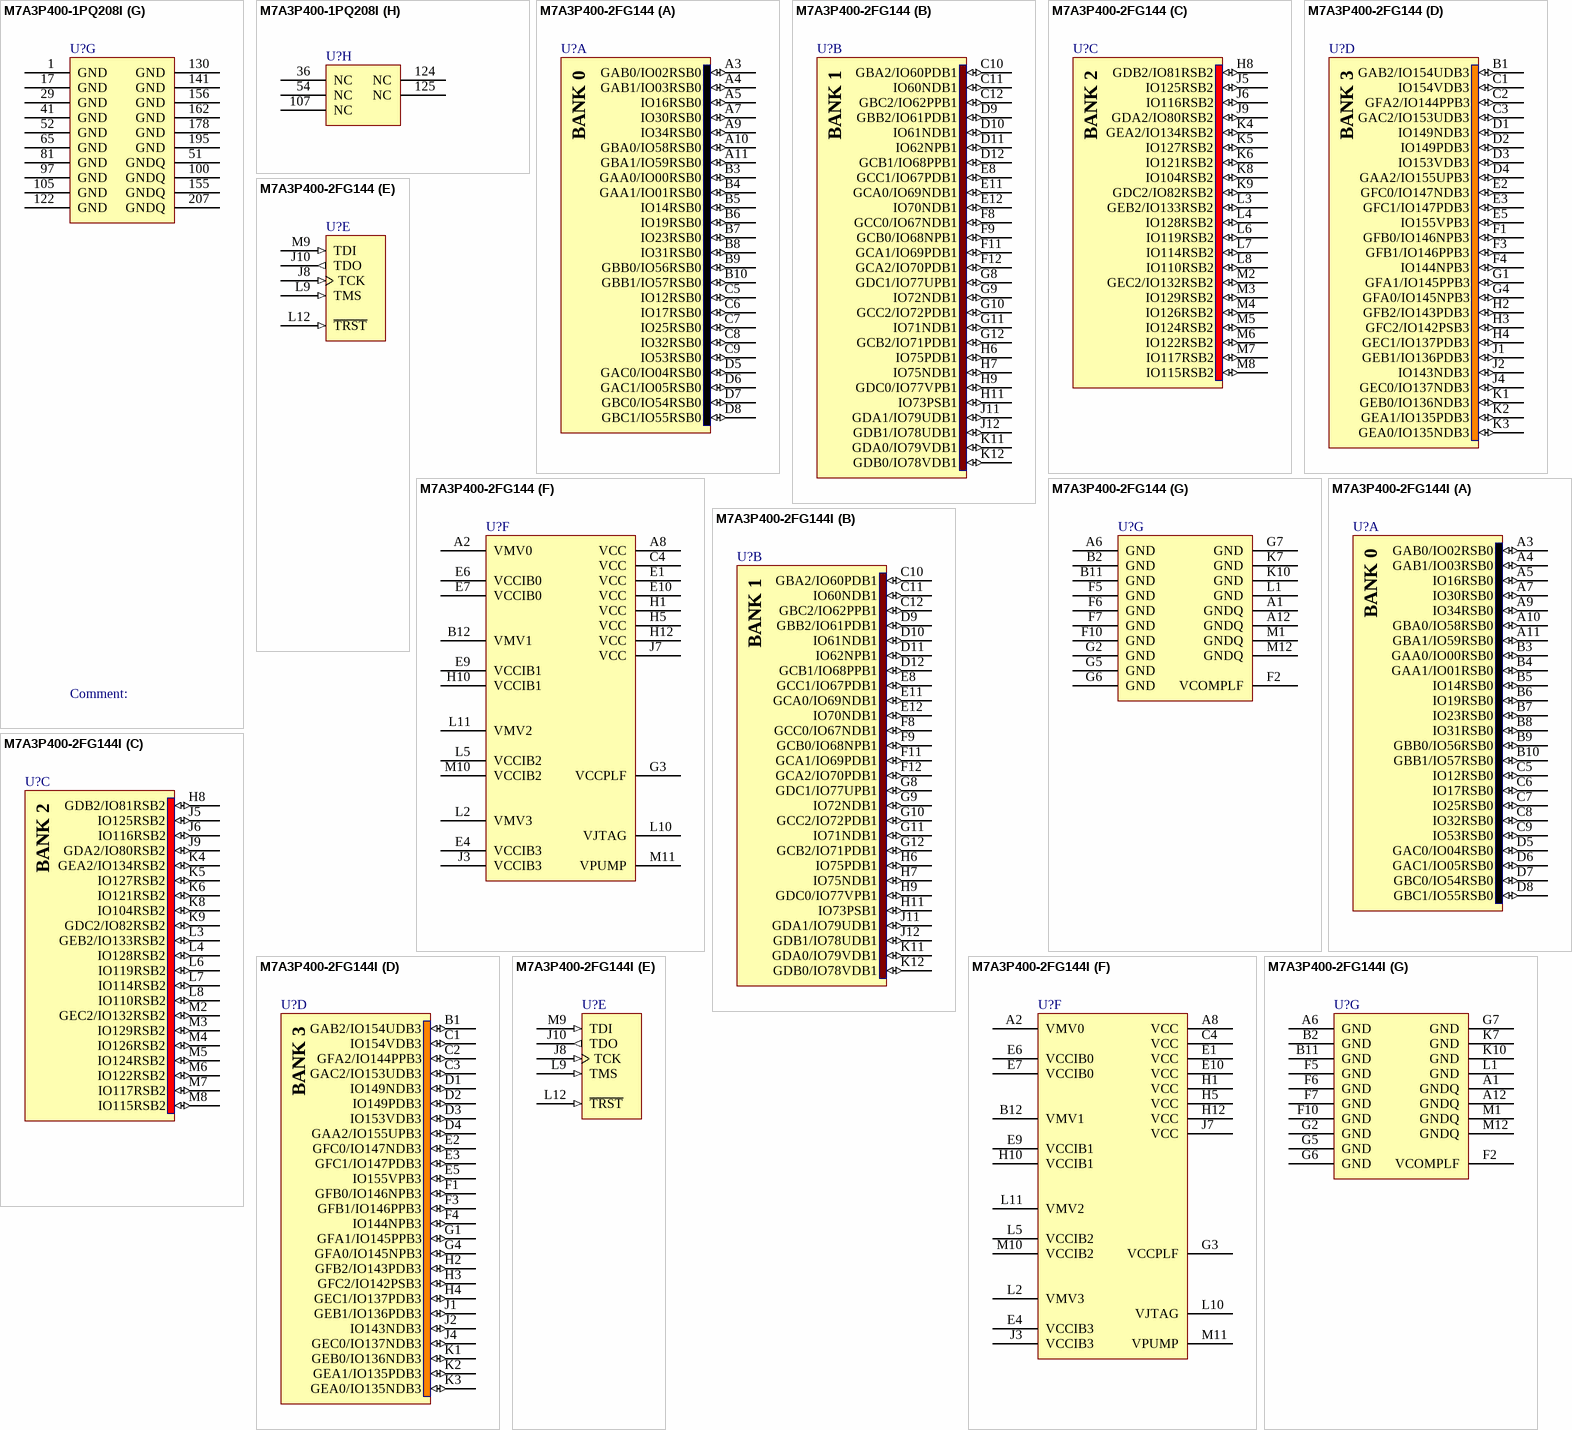
[diagram p261: symbols M7A3P400-1PQ208I to M7A3P400-2FG144I]